# Altium schematic symbol library OOLITEV8_0_2-DEV-V1_1_17_Library.SchLib: 269 symbols (part 11 of 12)
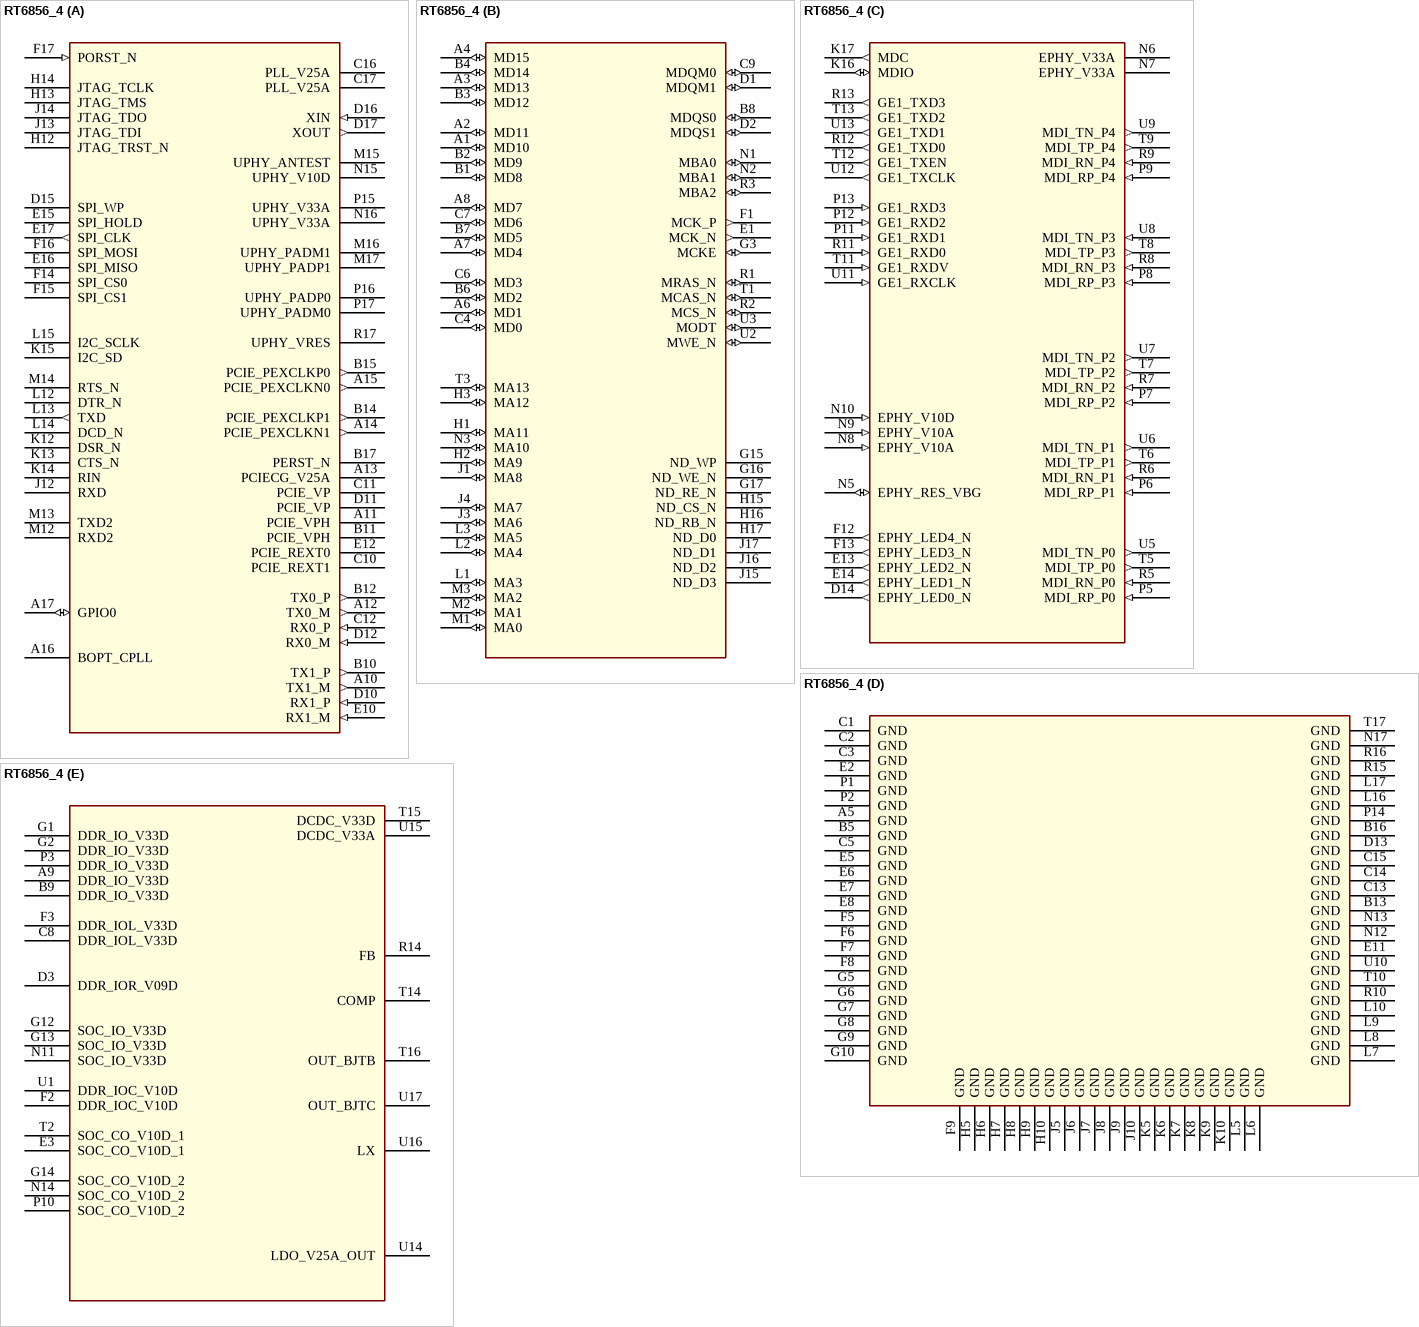
[diagram p148: symbol RT6856_4]

## RT6856_4
designator U?
footprint TFBGA289
part A pins: A10 TX1_M (out), A11 PCIE_VPH (power), A12 TX0_M (out), A13 PCIECG_V25A, A14 PCIE_PEXCLKN1 (out), A15 PCIE_PEXCLKN0 (out), A16 BOPT_CPLL, A17 GPIO0 (io), B10 TX1_P (out), B11 PCIE_VPH (power), B12 TX0_P (out), B14 PCIE_PEXCLKP1 (out), B15 PCIE_PEXCLKP0 (out), B17 PERST_N, C10 PCIE_REXT1, C11 PCIE_VP (power), C12 RX0_P (in), C16 PLL_V25A (power), C17 PLL_V25A (power), D10 RX1_P (in), D11 PCIE_VP (power), D12 RX0_M (in), D15 SPI_WP, D16 XIN (in), D17 XOUT (out), E10 RX1_M (in), E12 PCIE_REXT0, E15 SPI_HOLD, E16 SPI_MISO, E17 SPI_CLK (out), F14 SPI_CS0, F15 SPI_CS1, F16 SPI_MOSI, F17 PORST_N (in), H12 JTAG_TRST_N, H13 JTAG_TMS, H14 JTAG_TCLK, J12 RXD, J13 JTAG_TDI, J14 JTAG_TDO, K12 DSR_N, K13 CTS_N, K14 RIN, K15 I2C_SD, L12 DTR_N, L13 TXD (out), L14 DCD_N, L15 I2C_SCLK, M12 RXD2, M13 TXD2, M14 RTS_N, M15 UPHY_ANTEST, M16 UPHY_PADM1, M17 UPHY_PADP1, N15 UPHY_V10D (power), N16 UPHY_V33A (power), P15 UPHY_V33A (power), P16 UPHY_PADP0, P17 UPHY_PADM0, R17 UPHY_VRES
part B pins: A1 MD10 (io), A2 MD11 (io), A3 MD13 (io), A4 MD15 (io), A6 MD1 (io), A7 MD4 (io), A8 MD7 (io), B1 MD8 (io), B2 MD9 (io), B3 MD12 (io), B4 MD14 (io), B6 MD2 (io), B7 MD5 (io), B8 MDQS0 (io), C4 MD0 (io), C6 MD3 (io), C7 MD6 (io), C9 MDQM0 (io), D1 MDQM1 (io), D2 MDQS1 (io), E1 MCK_N (out), F1 MCK_P (out), G3 MCKE (io), G15 ND_WP, G16 ND_WE_N, G17 ND_RE_N, H1 MA11 (io), H2 MA9 (io), H3 MA12 (io), H15 ND_CS_N, H16 ND_RB_N, H17 ND_D0, J1 MA8 (io), J3 MA6 (io), J4 MA7 (io), J15 ND_D3, J16 ND_D2, J17 ND_D1, L1 MA3 (io), L2 MA4 (io), L3 MA5 (io), M1 MA0 (io), M2 MA1 (io), M3 MA2 (io), N1 MBA0 (io), N2 MBA1 (io), N3 MA10 (io), R1 MRAS_N (io), R2 MCS_N (io), R3 MBA2 (io), T1 MCAS_N (io), T3 MA13 (io), U2 MWE_N (io), U3 MODT (io)
part C pins: D14 EPHY_LED0_N (out), E13 EPHY_LED2_N (out), E14 EPHY_LED1_N (out), F12 EPHY_LED4_N (out), F13 EPHY_LED3_N (out), K16 MDIO (io), K17 MDC (out), N5 EPHY_RES_VBG (io), N6 EPHY_V33A (power), N7 EPHY_V33A (power), N8 EPHY_V10A (in), N9 EPHY_V10A (in), N10 EPHY_V10D (in), P5 MDI_RP_P0 (in), P6 MDI_RP_P1 (in), P7 MDI_RP_P2 (in), P8 MDI_RP_P3 (in), P9 MDI_RP_P4 (in), P11 GE1_RXD1 (in), P12 GE1_RXD2 (in), P13 GE1_RXD3 (in), R5 MDI_RN_P0 (in), R6 MDI_RN_P1 (in), R7 MDI_RN_P2 (in), R8 MDI_RN_P3 (in), R9 MDI_RN_P4 (in), R11 GE1_RXD0 (in), R12 GE1_TXD0 (out), R13 GE1_TXD3 (out), T5 MDI_TP_P0 (out), T6 MDI_TP_P1 (out), T7 MDI_TP_P2 (out), T8 MDI_TP_P3 (out), T9 MDI_TP_P4 (out), T11 GE1_RXDV (in), T12 GE1_TXEN (out), T13 GE1_TXD2 (out), U5 MDI_TN_P0 (out), U6 MDI_TN_P1 (out), U7 MDI_TN_P2 (out), U8 MDI_TN_P3 (in), U9 MDI_TN_P4 (out), U11 GE1_RXCLK (in), U12 GE1_TXCLK (out), U13 GE1_TXD1 (out)
part D pins: A5 GND (power), B5 GND (power), B13 GND (power), B16 GND (power), C1 GND (power), C2 GND (power), C3 GND (power), C5 GND (power), C13 GND (power), C14 GND (power), C15 GND (power), D13 GND (power), E2 GND (power), E5 GND (power), E6 GND (power), E7 GND (power), E8 GND (power), E11 GND (power), F5 GND (power), F6 GND (power), F7 GND (power), F8 GND (power), F9 GND (power), G5 GND (power), G6 GND (power), G7 GND (power), G8 GND (power), G9 GND (power), G10 GND (power), H5 GND (power), H6 GND (power), H7 GND (power), H8 GND (power), H9 GND (power), H10 GND (power), J5 GND (power), J6 GND (power), J7 GND (power), J8 GND (power), J9 GND (power), J10 GND (power), K5 GND (power), K6 GND (power), K7 GND (power), K8 GND (power), K9 GND (power), K10 GND (power), L5 GND (power), L6 GND (power), L7 GND (power), L8 GND (power), L9 GND (power), L10 GND (power), L16 GND (power), L17 GND (power), N12 GND (power), N13 GND (power), N17 GND (power), P1 GND (power), P2 GND (power), P14 GND (power), R10 GND (power), R15 GND (power), R16 GND (power), T10 GND (power), T17 GND (power), U10 GND (power)
part E pins: A9 DDR_IO_V33D (power), B9 DDR_IO_V33D (power), C8 DDR_IOL_V33D (power), D3 DDR_IOR_V09D (power), E3 SOC_CO_V10D_1 (power), F2 DDR_IOC_V10D (power), F3 DDR_IOL_V33D (power), G1 DDR_IO_V33D (power), G2 DDR_IO_V33D (power), G12 SOC_IO_V33D (power), G13 SOC_IO_V33D (power), G14 SOC_CO_V10D_2 (power), N11 SOC_IO_V33D (power), N14 SOC_CO_V10D_2 (power), P3 DDR_IO_V33D (power), P10 SOC_CO_V10D_2 (power), R14 FB, T2 SOC_CO_V10D_1 (power), T14 COMP, T15 DCDC_V33D (power), T16 OUT_BJTB, U1 DDR_IOC_V10D (power), U14 LDO_V25A_OUT, U15 DCDC_V33A (power), U16 LX, U17 OUT_BJTC

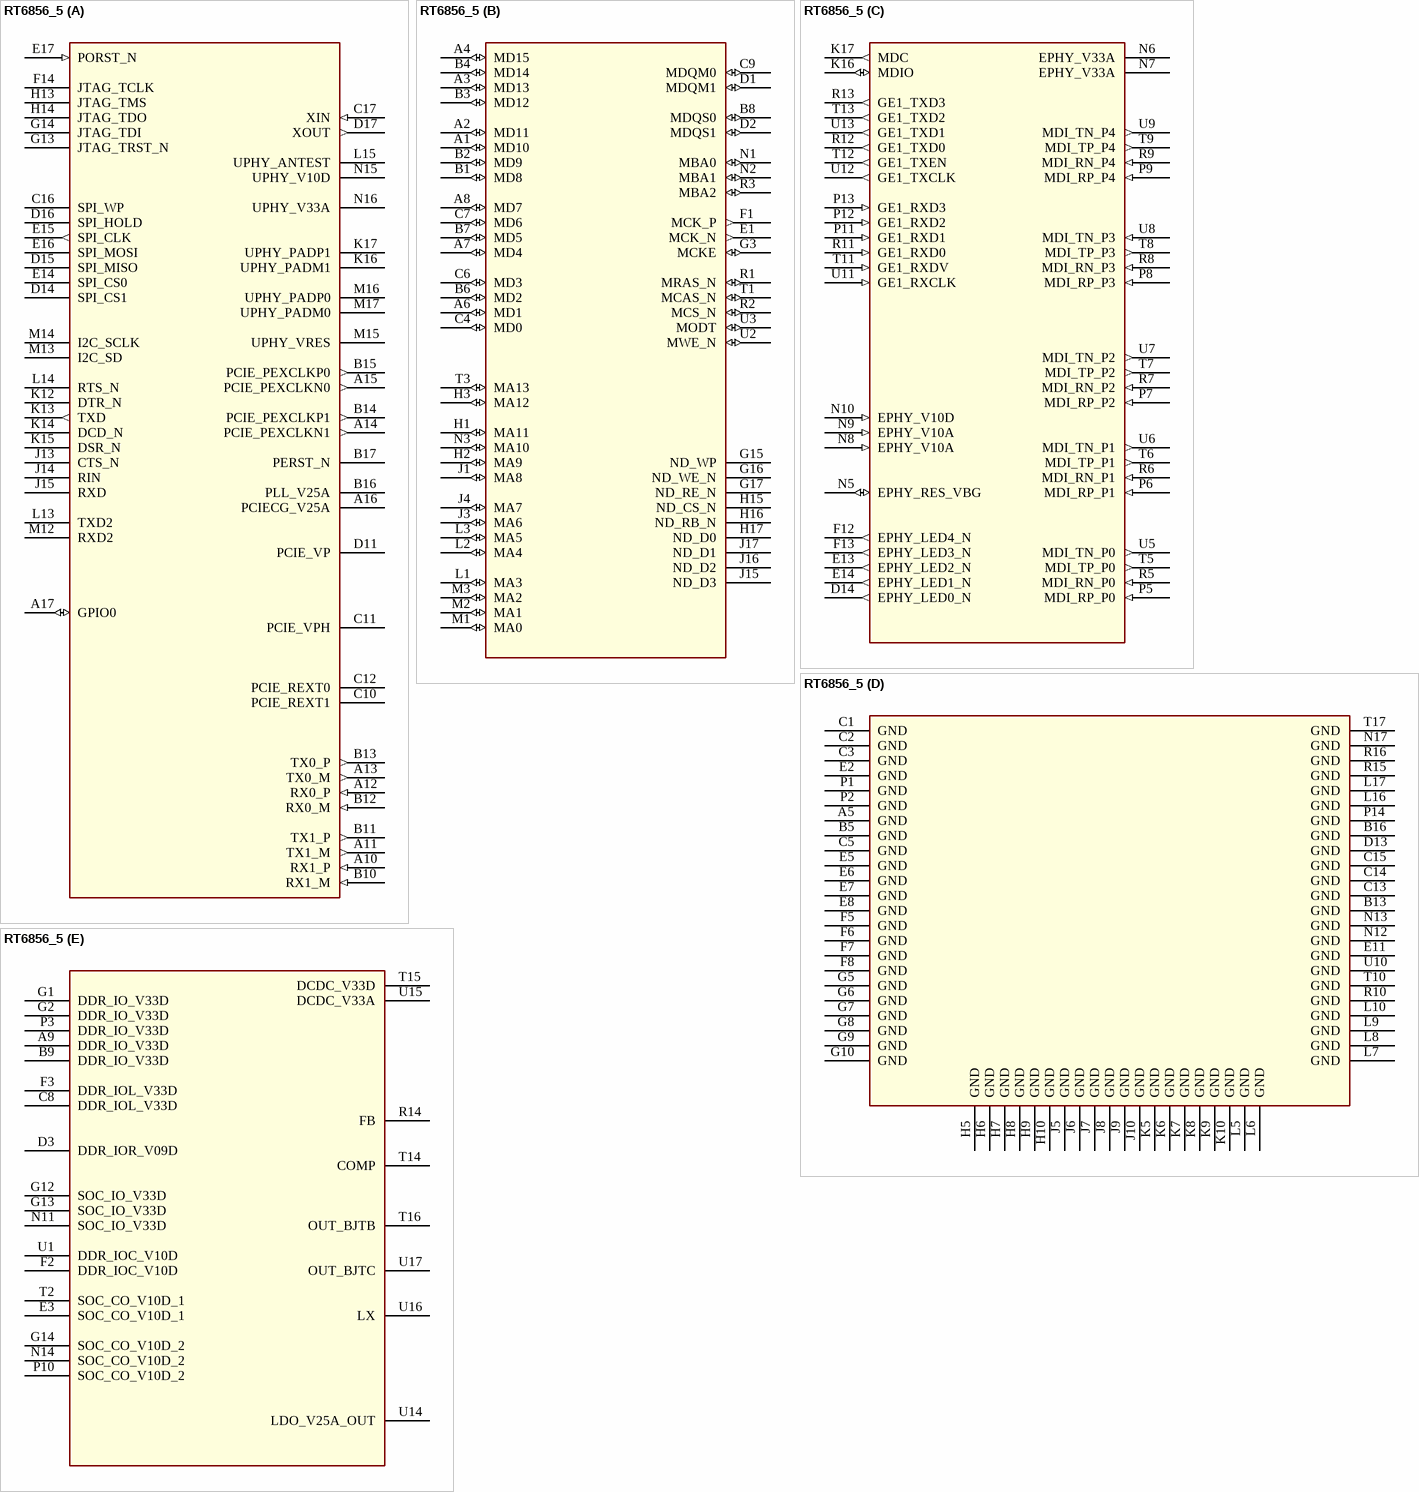
[diagram p126: symbol RT6856_5]

## RT6856_5
designator U?
footprint TFBGA289
part A pins: A10 RX1_P (in), A11 TX1_M (out), A12 RX0_P (in), A13 TX0_M (out), A14 PCIE_PEXCLKN1 (out), A15 PCIE_PEXCLKN0 (out), A16 PCIECG_V25A, A17 GPIO0 (io), B10 RX1_M (in), B11 TX1_P (out), B12 RX0_M (in), B13 TX0_P (out), B14 PCIE_PEXCLKP1 (out), B15 PCIE_PEXCLKP0 (out), B16 PLL_V25A (power), B17 PERST_N, C10 PCIE_REXT1, C11 PCIE_VPH (power), C12 PCIE_REXT0, C16 SPI_WP, C17 XIN (in), D11 PCIE_VP (power), D14 SPI_CS1, D15 SPI_MISO, D16 SPI_HOLD, D17 XOUT (out), E14 SPI_CS0, E15 SPI_CLK (out), E16 SPI_MOSI, E17 PORST_N (in), F14 JTAG_TCLK, G13 JTAG_TRST_N, G14 JTAG_TDI, H13 JTAG_TMS, H14 JTAG_TDO, J13 CTS_N, J14 RIN, J15 RXD, K12 DTR_N, K13 TXD (out), K14 DCD_N, K15 DSR_N, K16 UPHY_PADM1, K17 UPHY_PADP1, L13 TXD2, L14 RTS_N, L15 UPHY_ANTEST, M12 RXD2, M13 I2C_SD, M14 I2C_SCLK, M15 UPHY_VRES, M16 UPHY_PADP0, M17 UPHY_PADM0, N15 UPHY_V10D (power), N16 UPHY_V33A (power)
part B pins: A1 MD10 (io), A2 MD11 (io), A3 MD13 (io), A4 MD15 (io), A6 MD1 (io), A7 MD4 (io), A8 MD7 (io), B1 MD8 (io), B2 MD9 (io), B3 MD12 (io), B4 MD14 (io), B6 MD2 (io), B7 MD5 (io), B8 MDQS0 (io), C4 MD0 (io), C6 MD3 (io), C7 MD6 (io), C9 MDQM0 (io), D1 MDQM1 (io), D2 MDQS1 (io), E1 MCK_N (out), F1 MCK_P (out), G3 MCKE (io), G15 ND_WP, G16 ND_WE_N, G17 ND_RE_N, H1 MA11 (io), H2 MA9 (io), H3 MA12 (io), H15 ND_CS_N, H16 ND_RB_N, H17 ND_D0, J1 MA8 (io), J3 MA6 (io), J4 MA7 (io), J15 ND_D3, J16 ND_D2, J17 ND_D1, L1 MA3 (io), L2 MA4 (io), L3 MA5 (io), M1 MA0 (io), M2 MA1 (io), M3 MA2 (io), N1 MBA0 (io), N2 MBA1 (io), N3 MA10 (io), R1 MRAS_N (io), R2 MCS_N (io), R3 MBA2 (io), T1 MCAS_N (io), T3 MA13 (io), U2 MWE_N (io), U3 MODT (io)
part C pins: D14 EPHY_LED0_N (out), E13 EPHY_LED2_N (out), E14 EPHY_LED1_N (out), F12 EPHY_LED4_N (out), F13 EPHY_LED3_N (out), K16 MDIO (io), K17 MDC (out), N5 EPHY_RES_VBG (io), N6 EPHY_V33A (power), N7 EPHY_V33A (power), N8 EPHY_V10A (in), N9 EPHY_V10A (in), N10 EPHY_V10D (in), P5 MDI_RP_P0 (in), P6 MDI_RP_P1 (in), P7 MDI_RP_P2 (in), P8 MDI_RP_P3 (in), P9 MDI_RP_P4 (in), P11 GE1_RXD1 (in), P12 GE1_RXD2 (in), P13 GE1_RXD3 (in), R5 MDI_RN_P0 (in), R6 MDI_RN_P1 (in), R7 MDI_RN_P2 (in), R8 MDI_RN_P3 (in), R9 MDI_RN_P4 (in), R11 GE1_RXD0 (in), R12 GE1_TXD0 (out), R13 GE1_TXD3 (out), T5 MDI_TP_P0 (out), T6 MDI_TP_P1 (out), T7 MDI_TP_P2 (out), T8 MDI_TP_P3 (out), T9 MDI_TP_P4 (out), T11 GE1_RXDV (in), T12 GE1_TXEN (out), T13 GE1_TXD2 (out), U5 MDI_TN_P0 (out), U6 MDI_TN_P1 (out), U7 MDI_TN_P2 (out), U8 MDI_TN_P3 (in), U9 MDI_TN_P4 (out), U11 GE1_RXCLK (in), U12 GE1_TXCLK (out), U13 GE1_TXD1 (out)
part D pins: A5 GND (power), B5 GND (power), B13 GND (power), B16 GND (power), C1 GND (power), C2 GND (power), C3 GND (power), C5 GND (power), C13 GND (power), C14 GND (power), C15 GND (power), D13 GND (power), E2 GND (power), E5 GND (power), E6 GND (power), E7 GND (power), E8 GND (power), E11 GND (power), F5 GND (power), F6 GND (power), F7 GND (power), F8 GND (power), G5 GND (power), G6 GND (power), G7 GND (power), G8 GND (power), G9 GND (power), G10 GND (power), H5 GND (power), H6 GND (power), H7 GND (power), H8 GND (power), H9 GND (power), H10 GND (power), J5 GND (power), J6 GND (power), J7 GND (power), J8 GND (power), J9 GND (power), J10 GND (power), K5 GND (power), K6 GND (power), K7 GND (power), K8 GND (power), K9 GND (power), K10 GND (power), L5 GND (power), L6 GND (power), L7 GND (power), L8 GND (power), L9 GND (power), L10 GND (power), L16 GND (power), L17 GND (power), N12 GND (power), N13 GND (power), N17 GND (power), P1 GND (power), P2 GND (power), P14 GND (power), R10 GND (power), R15 GND (power), R16 GND (power), T10 GND (power), T17 GND (power), U10 GND (power)
part E pins: A9 DDR_IO_V33D (power), B9 DDR_IO_V33D (power), C8 DDR_IOL_V33D (power), D3 DDR_IOR_V09D (power), E3 SOC_CO_V10D_1 (power), F2 DDR_IOC_V10D (power), F3 DDR_IOL_V33D (power), G1 DDR_IO_V33D (power), G2 DDR_IO_V33D (power), G12 SOC_IO_V33D (power), G13 SOC_IO_V33D (power), G14 SOC_CO_V10D_2 (power), N11 SOC_IO_V33D (power), N14 SOC_CO_V10D_2 (power), P3 DDR_IO_V33D (power), P10 SOC_CO_V10D_2 (power), R14 FB, T2 SOC_CO_V10D_1 (power), T14 COMP, T15 DCDC_V33D (power), T16 OUT_BJTB, U1 DDR_IOC_V10D (power), U14 LDO_V25A_OUT, U15 DCDC_V33A (power), U16 LX, U17 OUT_BJTC

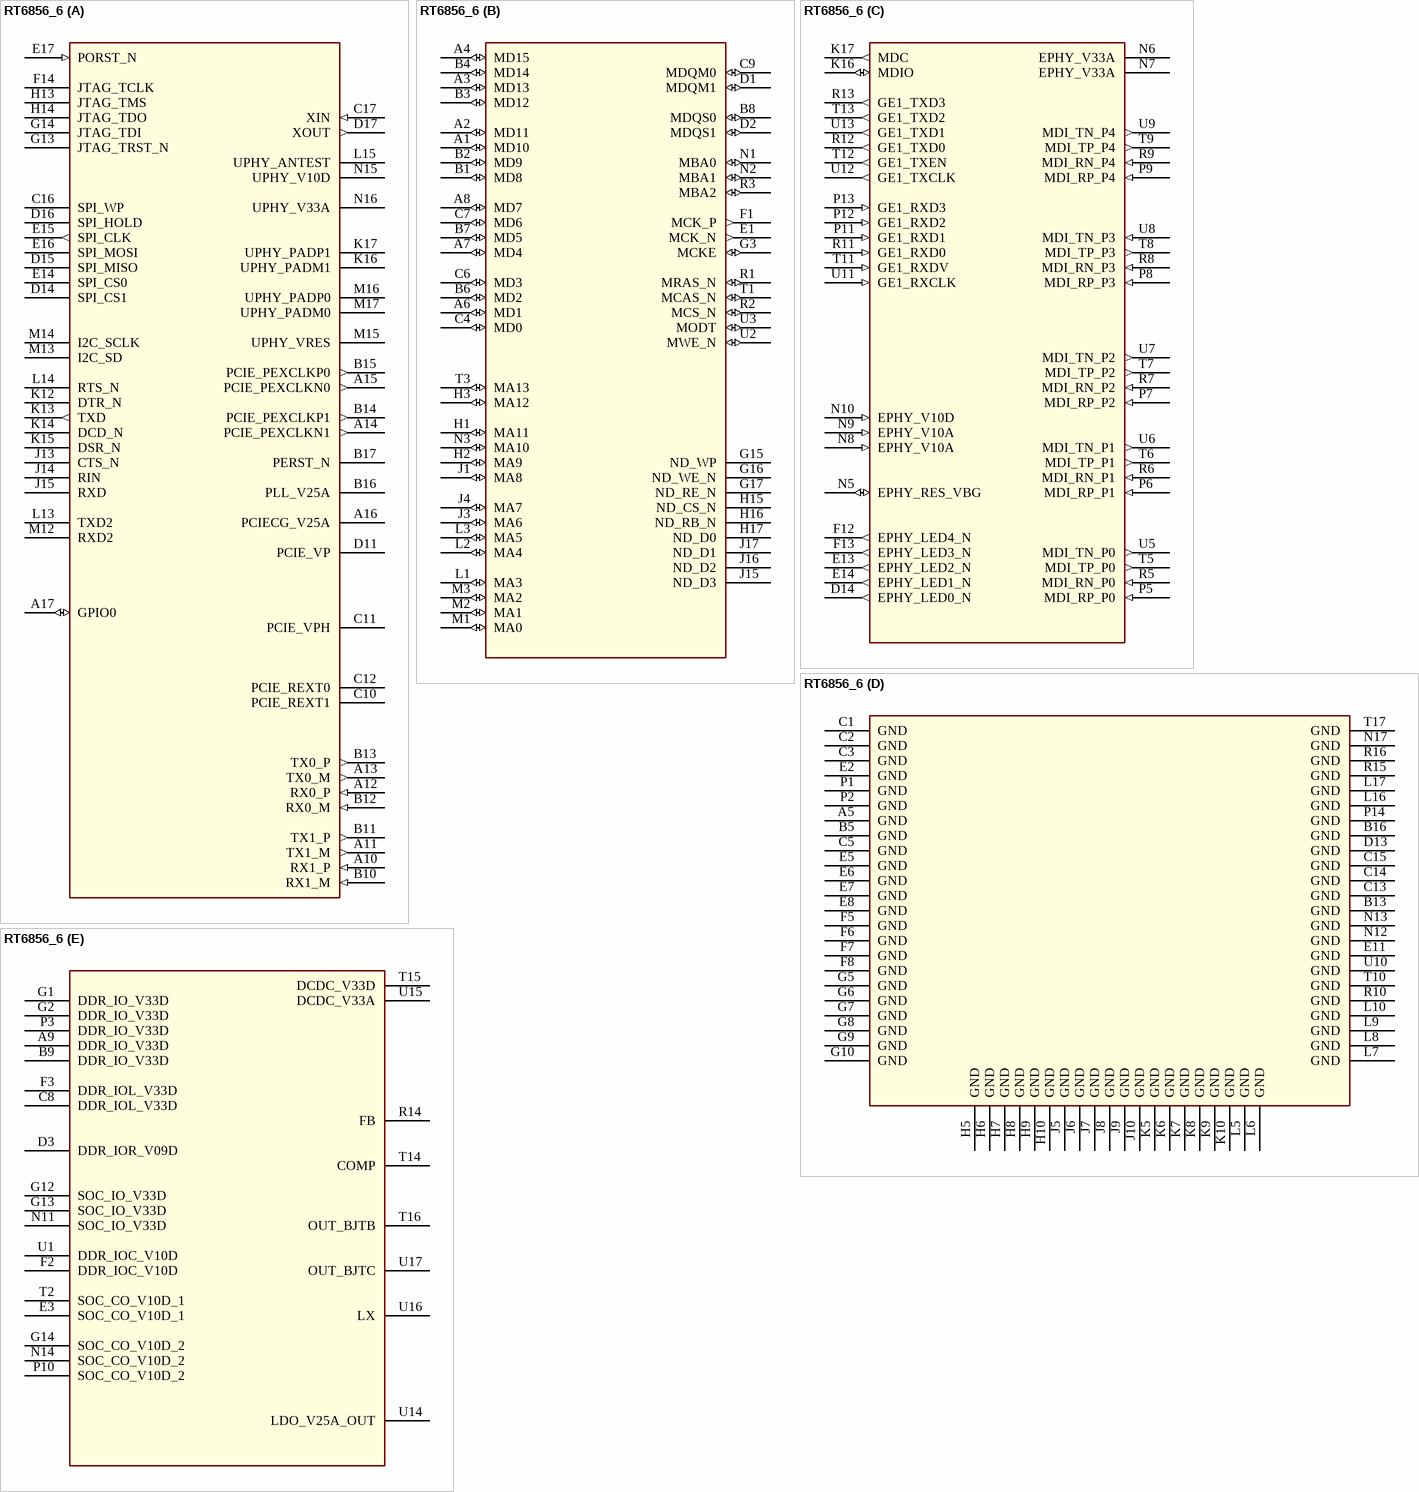
[diagram p127: symbol RT6856_6]

## RT6856_6
designator U?
footprint TFBGA289
part A pins: A10 RX1_P (in), A11 TX1_M (out), A12 RX0_P (in), A13 TX0_M (out), A14 PCIE_PEXCLKN1 (out), A15 PCIE_PEXCLKN0 (out), A16 PCIECG_V25A, A17 GPIO0 (io), B10 RX1_M (in), B11 TX1_P (out), B12 RX0_M (in), B13 TX0_P (out), B14 PCIE_PEXCLKP1 (out), B15 PCIE_PEXCLKP0 (out), B16 PLL_V25A (power), B17 PERST_N, C10 PCIE_REXT1, C11 PCIE_VPH (power), C12 PCIE_REXT0, C16 SPI_WP, C17 XIN (in), D11 PCIE_VP (power), D14 SPI_CS1, D15 SPI_MISO, D16 SPI_HOLD, D17 XOUT (out), E14 SPI_CS0, E15 SPI_CLK (out), E16 SPI_MOSI, E17 PORST_N (in), F14 JTAG_TCLK, G13 JTAG_TRST_N, G14 JTAG_TDI, H13 JTAG_TMS, H14 JTAG_TDO, J13 CTS_N, J14 RIN, J15 RXD, K12 DTR_N, K13 TXD (out), K14 DCD_N, K15 DSR_N, K16 UPHY_PADM1, K17 UPHY_PADP1, L13 TXD2, L14 RTS_N, L15 UPHY_ANTEST, M12 RXD2, M13 I2C_SD, M14 I2C_SCLK, M15 UPHY_VRES, M16 UPHY_PADP0, M17 UPHY_PADM0, N15 UPHY_V10D (power), N16 UPHY_V33A (power)
part B pins: A1 MD10 (io), A2 MD11 (io), A3 MD13 (io), A4 MD15 (io), A6 MD1 (io), A7 MD4 (io), A8 MD7 (io), B1 MD8 (io), B2 MD9 (io), B3 MD12 (io), B4 MD14 (io), B6 MD2 (io), B7 MD5 (io), B8 MDQS0 (io), C4 MD0 (io), C6 MD3 (io), C7 MD6 (io), C9 MDQM0 (io), D1 MDQM1 (io), D2 MDQS1 (io), E1 MCK_N (out), F1 MCK_P (out), G3 MCKE (io), G15 ND_WP, G16 ND_WE_N, G17 ND_RE_N, H1 MA11 (io), H2 MA9 (io), H3 MA12 (io), H15 ND_CS_N, H16 ND_RB_N, H17 ND_D0, J1 MA8 (io), J3 MA6 (io), J4 MA7 (io), J15 ND_D3, J16 ND_D2, J17 ND_D1, L1 MA3 (io), L2 MA4 (io), L3 MA5 (io), M1 MA0 (io), M2 MA1 (io), M3 MA2 (io), N1 MBA0 (io), N2 MBA1 (io), N3 MA10 (io), R1 MRAS_N (io), R2 MCS_N (io), R3 MBA2 (io), T1 MCAS_N (io), T3 MA13 (io), U2 MWE_N (io), U3 MODT (io)
part C pins: D14 EPHY_LED0_N (out), E13 EPHY_LED2_N (out), E14 EPHY_LED1_N (out), F12 EPHY_LED4_N (out), F13 EPHY_LED3_N (out), K16 MDIO (io), K17 MDC (out), N5 EPHY_RES_VBG (io), N6 EPHY_V33A (power), N7 EPHY_V33A (power), N8 EPHY_V10A (in), N9 EPHY_V10A (in), N10 EPHY_V10D (in), P5 MDI_RP_P0 (in), P6 MDI_RP_P1 (in), P7 MDI_RP_P2 (in), P8 MDI_RP_P3 (in), P9 MDI_RP_P4 (in), P11 GE1_RXD1 (in), P12 GE1_RXD2 (in), P13 GE1_RXD3 (in), R5 MDI_RN_P0 (in), R6 MDI_RN_P1 (in), R7 MDI_RN_P2 (in), R8 MDI_RN_P3 (in), R9 MDI_RN_P4 (in), R11 GE1_RXD0 (in), R12 GE1_TXD0 (out), R13 GE1_TXD3 (out), T5 MDI_TP_P0 (out), T6 MDI_TP_P1 (out), T7 MDI_TP_P2 (out), T8 MDI_TP_P3 (out), T9 MDI_TP_P4 (out), T11 GE1_RXDV (in), T12 GE1_TXEN (out), T13 GE1_TXD2 (out), U5 MDI_TN_P0 (out), U6 MDI_TN_P1 (out), U7 MDI_TN_P2 (out), U8 MDI_TN_P3 (in), U9 MDI_TN_P4 (out), U11 GE1_RXCLK (in), U12 GE1_TXCLK (out), U13 GE1_TXD1 (out)
part D pins: A5 GND (power), B5 GND (power), B13 GND (power), B16 GND (power), C1 GND (power), C2 GND (power), C3 GND (power), C5 GND (power), C13 GND (power), C14 GND (power), C15 GND (power), D13 GND (power), E2 GND (power), E5 GND (power), E6 GND (power), E7 GND (power), E8 GND (power), E11 GND (power), F5 GND (power), F6 GND (power), F7 GND (power), F8 GND (power), G5 GND (power), G6 GND (power), G7 GND (power), G8 GND (power), G9 GND (power), G10 GND (power), H5 GND (power), H6 GND (power), H7 GND (power), H8 GND (power), H9 GND (power), H10 GND (power), J5 GND (power), J6 GND (power), J7 GND (power), J8 GND (power), J9 GND (power), J10 GND (power), K5 GND (power), K6 GND (power), K7 GND (power), K8 GND (power), K9 GND (power), K10 GND (power), L5 GND (power), L6 GND (power), L7 GND (power), L8 GND (power), L9 GND (power), L10 GND (power), L16 GND (power), L17 GND (power), N12 GND (power), N13 GND (power), N17 GND (power), P1 GND (power), P2 GND (power), P14 GND (power), R10 GND (power), R15 GND (power), R16 GND (power), T10 GND (power), T17 GND (power), U10 GND (power)
part E pins: A9 DDR_IO_V33D (power), B9 DDR_IO_V33D (power), C8 DDR_IOL_V33D (power), D3 DDR_IOR_V09D (power), E3 SOC_CO_V10D_1 (power), F2 DDR_IOC_V10D (power), F3 DDR_IOL_V33D (power), G1 DDR_IO_V33D (power), G2 DDR_IO_V33D (power), G12 SOC_IO_V33D (power), G13 SOC_IO_V33D (power), G14 SOC_CO_V10D_2 (power), N11 SOC_IO_V33D (power), N14 SOC_CO_V10D_2 (power), P3 DDR_IO_V33D (power), P10 SOC_CO_V10D_2 (power), R14 FB, T2 SOC_CO_V10D_1 (power), T14 COMP, T15 DCDC_V33D (power), T16 OUT_BJTB, U1 DDR_IOC_V10D (power), U14 LDO_V25A_OUT, U15 DCDC_V33A (power), U16 LX, U17 OUT_BJTC

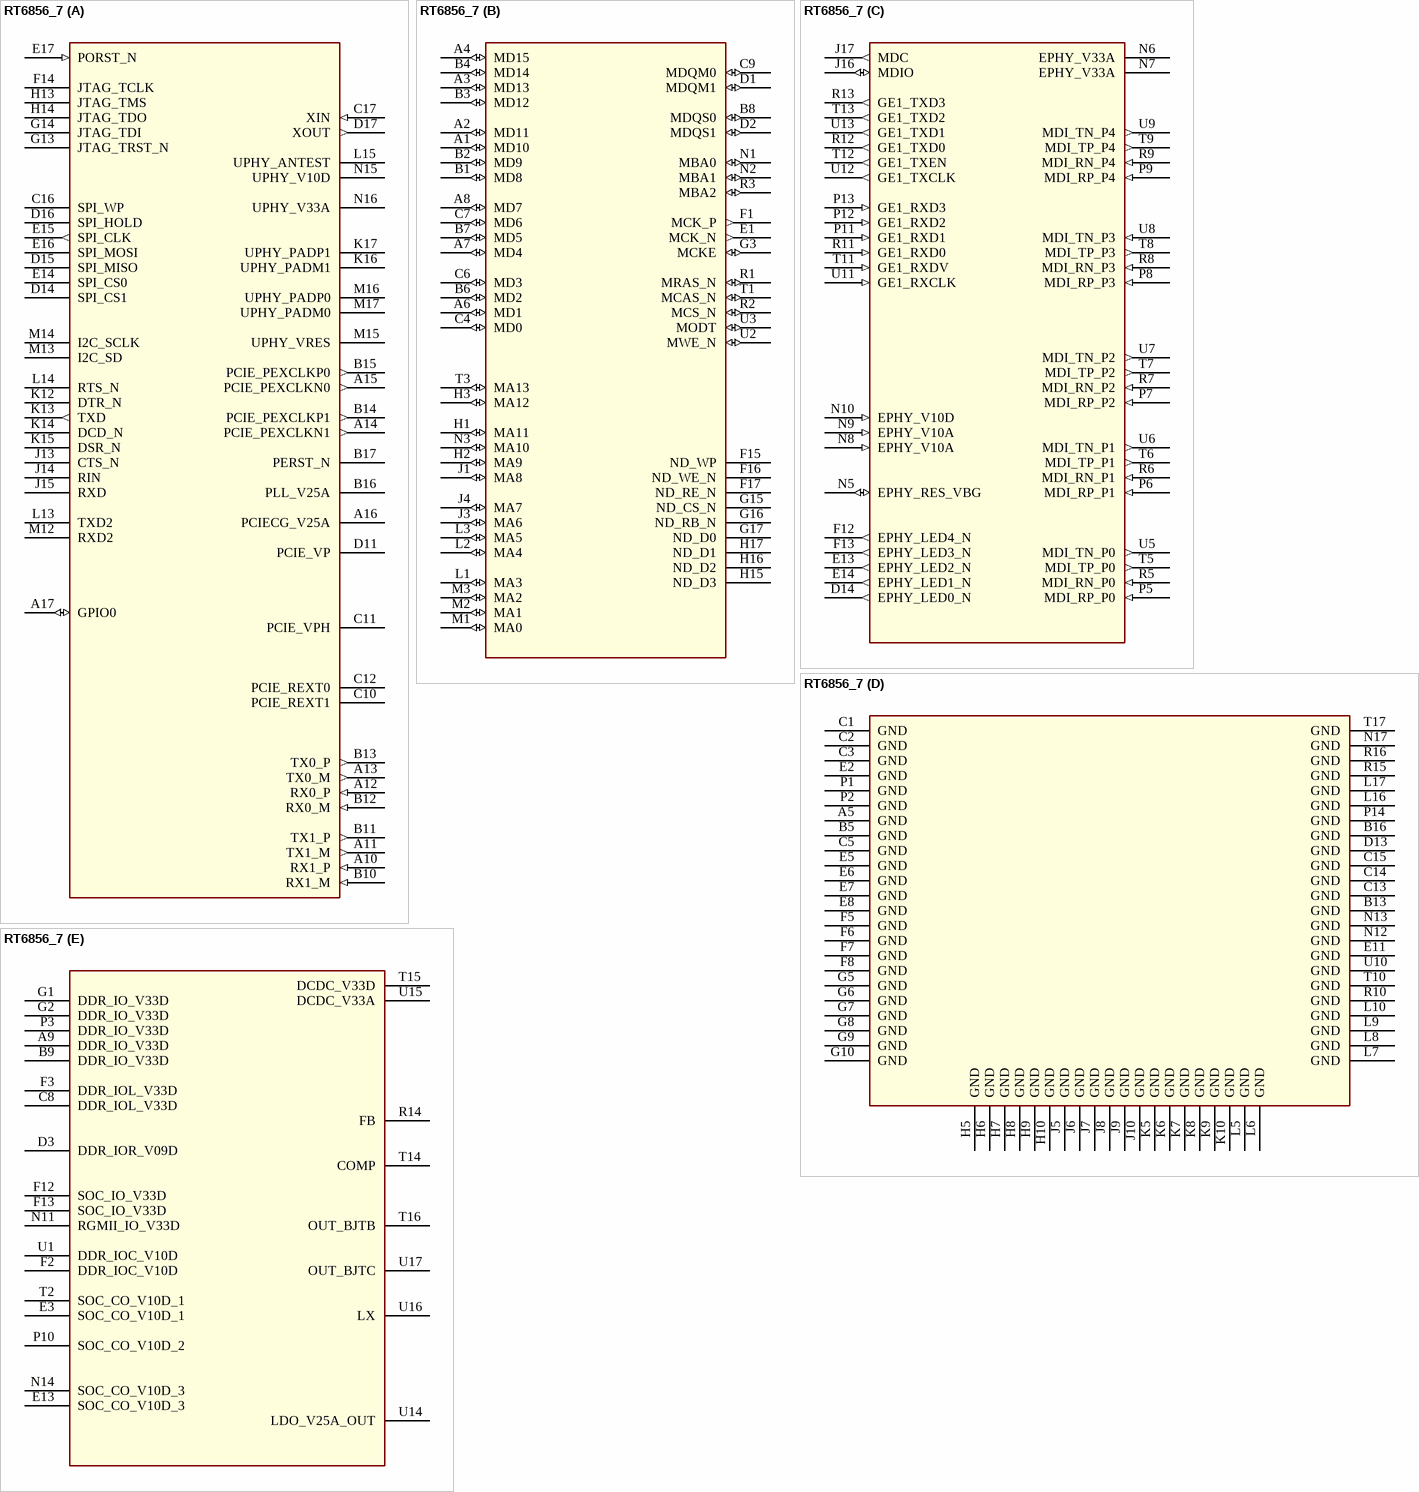
[diagram p128: symbol RT6856_7]

## RT6856_7
designator U?
footprint TFBGA289
part A pins: A10 RX1_P (in), A11 TX1_M (out), A12 RX0_P (in), A13 TX0_M (out), A14 PCIE_PEXCLKN1 (out), A15 PCIE_PEXCLKN0 (out), A16 PCIECG_V25A, A17 GPIO0 (io), B10 RX1_M (in), B11 TX1_P (out), B12 RX0_M (in), B13 TX0_P (out), B14 PCIE_PEXCLKP1 (out), B15 PCIE_PEXCLKP0 (out), B16 PLL_V25A (power), B17 PERST_N, C10 PCIE_REXT1, C11 PCIE_VPH (power), C12 PCIE_REXT0, C16 SPI_WP, C17 XIN (in), D11 PCIE_VP (power), D14 SPI_CS1, D15 SPI_MISO, D16 SPI_HOLD, D17 XOUT (out), E14 SPI_CS0, E15 SPI_CLK (out), E16 SPI_MOSI, E17 PORST_N (in), F14 JTAG_TCLK, G13 JTAG_TRST_N, G14 JTAG_TDI, H13 JTAG_TMS, H14 JTAG_TDO, J13 CTS_N, J14 RIN, J15 RXD, K12 DTR_N, K13 TXD (out), K14 DCD_N, K15 DSR_N, K16 UPHY_PADM1, K17 UPHY_PADP1, L13 TXD2, L14 RTS_N, L15 UPHY_ANTEST, M12 RXD2, M13 I2C_SD, M14 I2C_SCLK, M15 UPHY_VRES, M16 UPHY_PADP0, M17 UPHY_PADM0, N15 UPHY_V10D (power), N16 UPHY_V33A (power)
part B pins: A1 MD10 (io), A2 MD11 (io), A3 MD13 (io), A4 MD15 (io), A6 MD1 (io), A7 MD4 (io), A8 MD7 (io), B1 MD8 (io), B2 MD9 (io), B3 MD12 (io), B4 MD14 (io), B6 MD2 (io), B7 MD5 (io), B8 MDQS0 (io), C4 MD0 (io), C6 MD3 (io), C7 MD6 (io), C9 MDQM0 (io), D1 MDQM1 (io), D2 MDQS1 (io), E1 MCK_N (out), F1 MCK_P (out), F15 ND_WP, F16 ND_WE_N, F17 ND_RE_N, G3 MCKE (io), G15 ND_CS_N, G16 ND_RB_N, G17 ND_D0, H1 MA11 (io), H2 MA9 (io), H3 MA12 (io), H15 ND_D3, H16 ND_D2, H17 ND_D1, J1 MA8 (io), J3 MA6 (io), J4 MA7 (io), L1 MA3 (io), L2 MA4 (io), L3 MA5 (io), M1 MA0 (io), M2 MA1 (io), M3 MA2 (io), N1 MBA0 (io), N2 MBA1 (io), N3 MA10 (io), R1 MRAS_N (io), R2 MCS_N (io), R3 MBA2 (io), T1 MCAS_N (io), T3 MA13 (io), U2 MWE_N (io), U3 MODT (io)
part C pins: D14 EPHY_LED0_N (out), E13 EPHY_LED2_N (out), E14 EPHY_LED1_N (out), F12 EPHY_LED4_N (out), F13 EPHY_LED3_N (out), J16 MDIO (io), J17 MDC (out), N5 EPHY_RES_VBG (io), N6 EPHY_V33A (power), N7 EPHY_V33A (power), N8 EPHY_V10A (in), N9 EPHY_V10A (in), N10 EPHY_V10D (in), P5 MDI_RP_P0 (in), P6 MDI_RP_P1 (in), P7 MDI_RP_P2 (in), P8 MDI_RP_P3 (in), P9 MDI_RP_P4 (in), P11 GE1_RXD1 (in), P12 GE1_RXD2 (in), P13 GE1_RXD3 (in), R5 MDI_RN_P0 (in), R6 MDI_RN_P1 (in), R7 MDI_RN_P2 (in), R8 MDI_RN_P3 (in), R9 MDI_RN_P4 (in), R11 GE1_RXD0 (in), R12 GE1_TXD0 (out), R13 GE1_TXD3 (out), T5 MDI_TP_P0 (out), T6 MDI_TP_P1 (out), T7 MDI_TP_P2 (out), T8 MDI_TP_P3 (out), T9 MDI_TP_P4 (out), T11 GE1_RXDV (in), T12 GE1_TXEN (out), T13 GE1_TXD2 (out), U5 MDI_TN_P0 (out), U6 MDI_TN_P1 (out), U7 MDI_TN_P2 (out), U8 MDI_TN_P3 (in), U9 MDI_TN_P4 (out), U11 GE1_RXCLK (in), U12 GE1_TXCLK (out), U13 GE1_TXD1 (out)
part D pins: A5 GND (power), B5 GND (power), B13 GND (power), B16 GND (power), C1 GND (power), C2 GND (power), C3 GND (power), C5 GND (power), C13 GND (power), C14 GND (power), C15 GND (power), D13 GND (power), E2 GND (power), E5 GND (power), E6 GND (power), E7 GND (power), E8 GND (power), E11 GND (power), F5 GND (power), F6 GND (power), F7 GND (power), F8 GND (power), G5 GND (power), G6 GND (power), G7 GND (power), G8 GND (power), G9 GND (power), G10 GND (power), H5 GND (power), H6 GND (power), H7 GND (power), H8 GND (power), H9 GND (power), H10 GND (power), J5 GND (power), J6 GND (power), J7 GND (power), J8 GND (power), J9 GND (power), J10 GND (power), K5 GND (power), K6 GND (power), K7 GND (power), K8 GND (power), K9 GND (power), K10 GND (power), L5 GND (power), L6 GND (power), L7 GND (power), L8 GND (power), L9 GND (power), L10 GND (power), L16 GND (power), L17 GND (power), N12 GND (power), N13 GND (power), N17 GND (power), P1 GND (power), P2 GND (power), P14 GND (power), R10 GND (power), R15 GND (power), R16 GND (power), T10 GND (power), T17 GND (power), U10 GND (power)
part E pins: A9 DDR_IO_V33D (power), B9 DDR_IO_V33D (power), C8 DDR_IOL_V33D (power), D3 DDR_IOR_V09D (power), E3 SOC_CO_V10D_1 (power), E13 SOC_CO_V10D_3 (power), F2 DDR_IOC_V10D (power), F3 DDR_IOL_V33D (power), F12 SOC_IO_V33D (power), F13 SOC_IO_V33D (power), G1 DDR_IO_V33D (power), G2 DDR_IO_V33D (power), N11 RGMII_IO_V33D (power), N14 SOC_CO_V10D_3 (power), P3 DDR_IO_V33D (power), P10 SOC_CO_V10D_2 (power), R14 FB, T2 SOC_CO_V10D_1 (power), T14 COMP, T15 DCDC_V33D (power), T16 OUT_BJTB, U1 DDR_IOC_V10D (power), U14 LDO_V25A_OUT, U15 DCDC_V33A (power), U16 LX, U17 OUT_BJTC

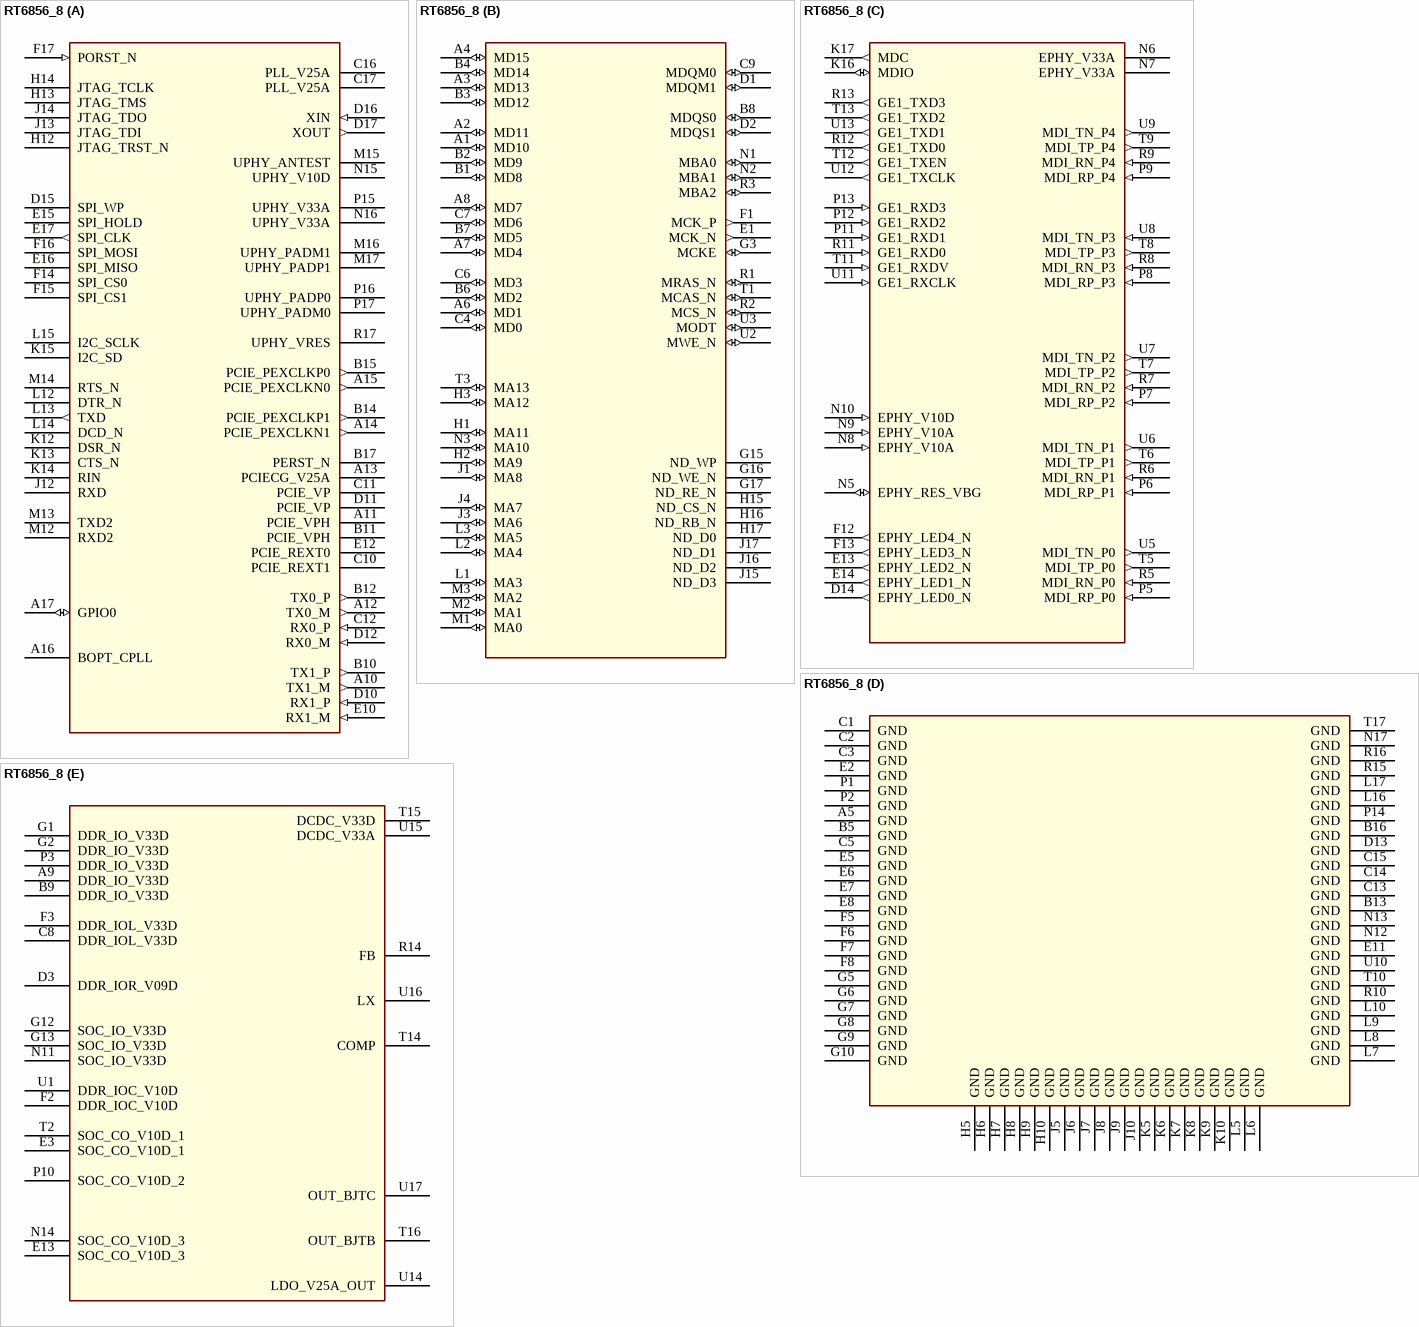
[diagram p129: symbol RT6856_8]

## RT6856_8
designator U?
footprint TFBGA289
part A pins: A10 TX1_M (out), A11 PCIE_VPH (power), A12 TX0_M (out), A13 PCIECG_V25A, A14 PCIE_PEXCLKN1 (out), A15 PCIE_PEXCLKN0 (out), A16 BOPT_CPLL, A17 GPIO0 (io), B10 TX1_P (out), B11 PCIE_VPH (power), B12 TX0_P (out), B14 PCIE_PEXCLKP1 (out), B15 PCIE_PEXCLKP0 (out), B17 PERST_N, C10 PCIE_REXT1, C11 PCIE_VP (power), C12 RX0_P (in), C16 PLL_V25A (power), C17 PLL_V25A (power), D10 RX1_P (in), D11 PCIE_VP (power), D12 RX0_M (in), D15 SPI_WP, D16 XIN (in), D17 XOUT (out), E10 RX1_M (in), E12 PCIE_REXT0, E15 SPI_HOLD, E16 SPI_MISO, E17 SPI_CLK (out), F14 SPI_CS0, F15 SPI_CS1, F16 SPI_MOSI, F17 PORST_N (in), H12 JTAG_TRST_N, H13 JTAG_TMS, H14 JTAG_TCLK, J12 RXD, J13 JTAG_TDI, J14 JTAG_TDO, K12 DSR_N, K13 CTS_N, K14 RIN, K15 I2C_SD, L12 DTR_N, L13 TXD (out), L14 DCD_N, L15 I2C_SCLK, M12 RXD2, M13 TXD2, M14 RTS_N, M15 UPHY_ANTEST, M16 UPHY_PADM1, M17 UPHY_PADP1, N15 UPHY_V10D (power), N16 UPHY_V33A (power), P15 UPHY_V33A (power), P16 UPHY_PADP0, P17 UPHY_PADM0, R17 UPHY_VRES
part B pins: A1 MD10 (io), A2 MD11 (io), A3 MD13 (io), A4 MD15 (io), A6 MD1 (io), A7 MD4 (io), A8 MD7 (io), B1 MD8 (io), B2 MD9 (io), B3 MD12 (io), B4 MD14 (io), B6 MD2 (io), B7 MD5 (io), B8 MDQS0 (io), C4 MD0 (io), C6 MD3 (io), C7 MD6 (io), C9 MDQM0 (io), D1 MDQM1 (io), D2 MDQS1 (io), E1 MCK_N (out), F1 MCK_P (out), G3 MCKE (io), G15 ND_WP, G16 ND_WE_N, G17 ND_RE_N, H1 MA11 (io), H2 MA9 (io), H3 MA12 (io), H15 ND_CS_N, H16 ND_RB_N, H17 ND_D0, J1 MA8 (io), J3 MA6 (io), J4 MA7 (io), J15 ND_D3, J16 ND_D2, J17 ND_D1, L1 MA3 (io), L2 MA4 (io), L3 MA5 (io), M1 MA0 (io), M2 MA1 (io), M3 MA2 (io), N1 MBA0 (io), N2 MBA1 (io), N3 MA10 (io), R1 MRAS_N (io), R2 MCS_N (io), R3 MBA2 (io), T1 MCAS_N (io), T3 MA13 (io), U2 MWE_N (io), U3 MODT (io)
part C pins: D14 EPHY_LED0_N (out), E13 EPHY_LED2_N (out), E14 EPHY_LED1_N (out), F12 EPHY_LED4_N (out), F13 EPHY_LED3_N (out), K16 MDIO (io), K17 MDC (out), N5 EPHY_RES_VBG (io), N6 EPHY_V33A (power), N7 EPHY_V33A (power), N8 EPHY_V10A (in), N9 EPHY_V10A (in), N10 EPHY_V10D (in), P5 MDI_RP_P0 (in), P6 MDI_RP_P1 (in), P7 MDI_RP_P2 (in), P8 MDI_RP_P3 (in), P9 MDI_RP_P4 (in), P11 GE1_RXD1 (in), P12 GE1_RXD2 (in), P13 GE1_RXD3 (in), R5 MDI_RN_P0 (in), R6 MDI_RN_P1 (in), R7 MDI_RN_P2 (in), R8 MDI_RN_P3 (in), R9 MDI_RN_P4 (in), R11 GE1_RXD0 (in), R12 GE1_TXD0 (out), R13 GE1_TXD3 (out), T5 MDI_TP_P0 (out), T6 MDI_TP_P1 (out), T7 MDI_TP_P2 (out), T8 MDI_TP_P3 (out), T9 MDI_TP_P4 (out), T11 GE1_RXDV (in), T12 GE1_TXEN (out), T13 GE1_TXD2 (out), U5 MDI_TN_P0 (out), U6 MDI_TN_P1 (out), U7 MDI_TN_P2 (out), U8 MDI_TN_P3 (in), U9 MDI_TN_P4 (out), U11 GE1_RXCLK (in), U12 GE1_TXCLK (out), U13 GE1_TXD1 (out)
part D pins: A5 GND (power), B5 GND (power), B13 GND (power), B16 GND (power), C1 GND (power), C2 GND (power), C3 GND (power), C5 GND (power), C13 GND (power), C14 GND (power), C15 GND (power), D13 GND (power), E2 GND (power), E5 GND (power), E6 GND (power), E7 GND (power), E8 GND (power), E11 GND (power), F5 GND (power), F6 GND (power), F7 GND (power), F8 GND (power), G5 GND (power), G6 GND (power), G7 GND (power), G8 GND (power), G9 GND (power), G10 GND (power), H5 GND (power), H6 GND (power), H7 GND (power), H8 GND (power), H9 GND (power), H10 GND (power), J5 GND (power), J6 GND (power), J7 GND (power), J8 GND (power), J9 GND (power), J10 GND (power), K5 GND (power), K6 GND (power), K7 GND (power), K8 GND (power), K9 GND (power), K10 GND (power), L5 GND (power), L6 GND (power), L7 GND (power), L8 GND (power), L9 GND (power), L10 GND (power), L16 GND (power), L17 GND (power), N12 GND (power), N13 GND (power), N17 GND (power), P1 GND (power), P2 GND (power), P14 GND (power), R10 GND (power), R15 GND (power), R16 GND (power), T10 GND (power), T17 GND (power), U10 GND (power)
part E pins: A9 DDR_IO_V33D (power), B9 DDR_IO_V33D (power), C8 DDR_IOL_V33D (power), D3 DDR_IOR_V09D (power), E3 SOC_CO_V10D_1 (power), E13 SOC_CO_V10D_3 (power), F2 DDR_IOC_V10D (power), F3 DDR_IOL_V33D (power), G1 DDR_IO_V33D (power), G2 DDR_IO_V33D (power), G12 SOC_IO_V33D (power), G13 SOC_IO_V33D (power), N11 SOC_IO_V33D (power), N14 SOC_CO_V10D_3 (power), P3 DDR_IO_V33D (power), P10 SOC_CO_V10D_2 (power), R14 FB, T2 SOC_CO_V10D_1 (power), T14 COMP, T15 DCDC_V33D (power), T16 OUT_BJTB, U1 DDR_IOC_V10D (power), U14 LDO_V25A_OUT (power), U15 DCDC_V33A (power), U16 LX, U17 OUT_BJTC

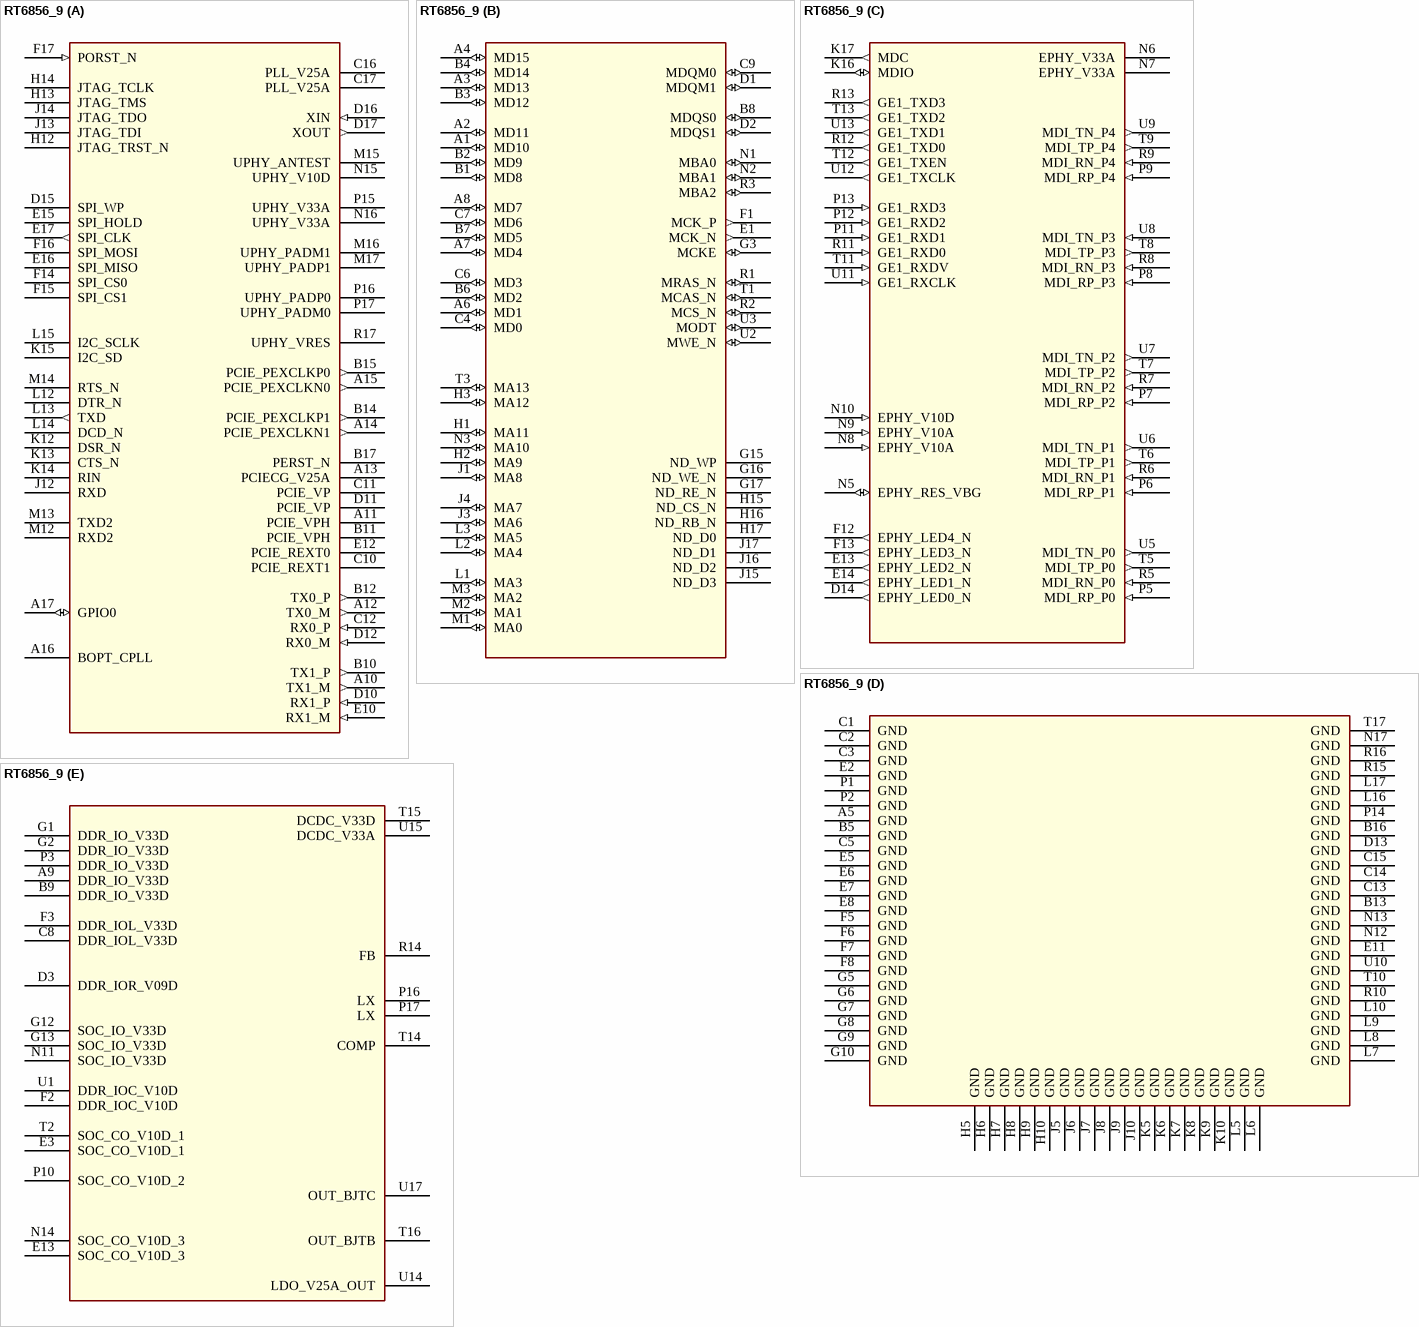
[diagram p130: symbol RT6856_9]

## RT6856_9
designator U?
footprint TFBGA289
part A pins: A10 TX1_M (out), A11 PCIE_VPH (power), A12 TX0_M (out), A13 PCIECG_V25A, A14 PCIE_PEXCLKN1 (out), A15 PCIE_PEXCLKN0 (out), A16 BOPT_CPLL, A17 GPIO0 (io), B10 TX1_P (out), B11 PCIE_VPH (power), B12 TX0_P (out), B14 PCIE_PEXCLKP1 (out), B15 PCIE_PEXCLKP0 (out), B17 PERST_N, C10 PCIE_REXT1, C11 PCIE_VP (power), C12 RX0_P (in), C16 PLL_V25A (power), C17 PLL_V25A (power), D10 RX1_P (in), D11 PCIE_VP (power), D12 RX0_M (in), D15 SPI_WP, D16 XIN (in), D17 XOUT (out), E10 RX1_M (in), E12 PCIE_REXT0, E15 SPI_HOLD, E16 SPI_MISO, E17 SPI_CLK (out), F14 SPI_CS0, F15 SPI_CS1, F16 SPI_MOSI, F17 PORST_N (in), H12 JTAG_TRST_N, H13 JTAG_TMS, H14 JTAG_TCLK, J12 RXD, J13 JTAG_TDI, J14 JTAG_TDO, K12 DSR_N, K13 CTS_N, K14 RIN, K15 I2C_SD, L12 DTR_N, L13 TXD (out), L14 DCD_N, L15 I2C_SCLK, M12 RXD2, M13 TXD2, M14 RTS_N, M15 UPHY_ANTEST, M16 UPHY_PADM1, M17 UPHY_PADP1, N15 UPHY_V10D (power), N16 UPHY_V33A (power), P15 UPHY_V33A (power), P16 UPHY_PADP0, P17 UPHY_PADM0, R17 UPHY_VRES
part B pins: A1 MD10 (io), A2 MD11 (io), A3 MD13 (io), A4 MD15 (io), A6 MD1 (io), A7 MD4 (io), A8 MD7 (io), B1 MD8 (io), B2 MD9 (io), B3 MD12 (io), B4 MD14 (io), B6 MD2 (io), B7 MD5 (io), B8 MDQS0 (io), C4 MD0 (io), C6 MD3 (io), C7 MD6 (io), C9 MDQM0 (io), D1 MDQM1 (io), D2 MDQS1 (io), E1 MCK_N (out), F1 MCK_P (out), G3 MCKE (io), G15 ND_WP, G16 ND_WE_N, G17 ND_RE_N, H1 MA11 (io), H2 MA9 (io), H3 MA12 (io), H15 ND_CS_N, H16 ND_RB_N, H17 ND_D0, J1 MA8 (io), J3 MA6 (io), J4 MA7 (io), J15 ND_D3, J16 ND_D2, J17 ND_D1, L1 MA3 (io), L2 MA4 (io), L3 MA5 (io), M1 MA0 (io), M2 MA1 (io), M3 MA2 (io), N1 MBA0 (io), N2 MBA1 (io), N3 MA10 (io), R1 MRAS_N (io), R2 MCS_N (io), R3 MBA2 (io), T1 MCAS_N (io), T3 MA13 (io), U2 MWE_N (io), U3 MODT (io)
part C pins: D14 EPHY_LED0_N (out), E13 EPHY_LED2_N (out), E14 EPHY_LED1_N (out), F12 EPHY_LED4_N (out), F13 EPHY_LED3_N (out), K16 MDIO (io), K17 MDC (out), N5 EPHY_RES_VBG (io), N6 EPHY_V33A (power), N7 EPHY_V33A (power), N8 EPHY_V10A (in), N9 EPHY_V10A (in), N10 EPHY_V10D (in), P5 MDI_RP_P0 (in), P6 MDI_RP_P1 (in), P7 MDI_RP_P2 (in), P8 MDI_RP_P3 (in), P9 MDI_RP_P4 (in), P11 GE1_RXD1 (in), P12 GE1_RXD2 (in), P13 GE1_RXD3 (in), R5 MDI_RN_P0 (in), R6 MDI_RN_P1 (in), R7 MDI_RN_P2 (in), R8 MDI_RN_P3 (in), R9 MDI_RN_P4 (in), R11 GE1_RXD0 (in), R12 GE1_TXD0 (out), R13 GE1_TXD3 (out), T5 MDI_TP_P0 (out), T6 MDI_TP_P1 (out), T7 MDI_TP_P2 (out), T8 MDI_TP_P3 (out), T9 MDI_TP_P4 (out), T11 GE1_RXDV (in), T12 GE1_TXEN (out), T13 GE1_TXD2 (out), U5 MDI_TN_P0 (out), U6 MDI_TN_P1 (out), U7 MDI_TN_P2 (out), U8 MDI_TN_P3 (in), U9 MDI_TN_P4 (out), U11 GE1_RXCLK (in), U12 GE1_TXCLK (out), U13 GE1_TXD1 (out)
part D pins: A5 GND (power), B5 GND (power), B13 GND (power), B16 GND (power), C1 GND (power), C2 GND (power), C3 GND (power), C5 GND (power), C13 GND (power), C14 GND (power), C15 GND (power), D13 GND (power), E2 GND (power), E5 GND (power), E6 GND (power), E7 GND (power), E8 GND (power), E11 GND (power), F5 GND (power), F6 GND (power), F7 GND (power), F8 GND (power), G5 GND (power), G6 GND (power), G7 GND (power), G8 GND (power), G9 GND (power), G10 GND (power), H5 GND (power), H6 GND (power), H7 GND (power), H8 GND (power), H9 GND (power), H10 GND (power), J5 GND (power), J6 GND (power), J7 GND (power), J8 GND (power), J9 GND (power), J10 GND (power), K5 GND (power), K6 GND (power), K7 GND (power), K8 GND (power), K9 GND (power), K10 GND (power), L5 GND (power), L6 GND (power), L7 GND (power), L8 GND (power), L9 GND (power), L10 GND (power), L16 GND (power), L17 GND (power), N12 GND (power), N13 GND (power), N17 GND (power), P1 GND (power), P2 GND (power), P14 GND (power), R10 GND (power), R15 GND (power), R16 GND (power), T10 GND (power), T17 GND (power), U10 GND (power)
part E pins: A9 DDR_IO_V33D (power), B9 DDR_IO_V33D (power), C8 DDR_IOL_V33D (power), D3 DDR_IOR_V09D (power), E3 SOC_CO_V10D_1 (power), E13 SOC_CO_V10D_3 (power), F2 DDR_IOC_V10D (power), F3 DDR_IOL_V33D (power), G1 DDR_IO_V33D (power), G2 DDR_IO_V33D (power), G12 SOC_IO_V33D (power), G13 SOC_IO_V33D (power), N11 SOC_IO_V33D (power), N14 SOC_CO_V10D_3 (power), P3 DDR_IO_V33D (power), P10 SOC_CO_V10D_2 (power), P16 LX, P17 LX (power), R14 FB, T2 SOC_CO_V10D_1 (power), T14 COMP, T15 DCDC_V33D (power), T16 OUT_BJTB, U1 DDR_IOC_V10D (power), U14 LDO_V25A_OUT (power), U15 DCDC_V33A (power), U17 OUT_BJTC

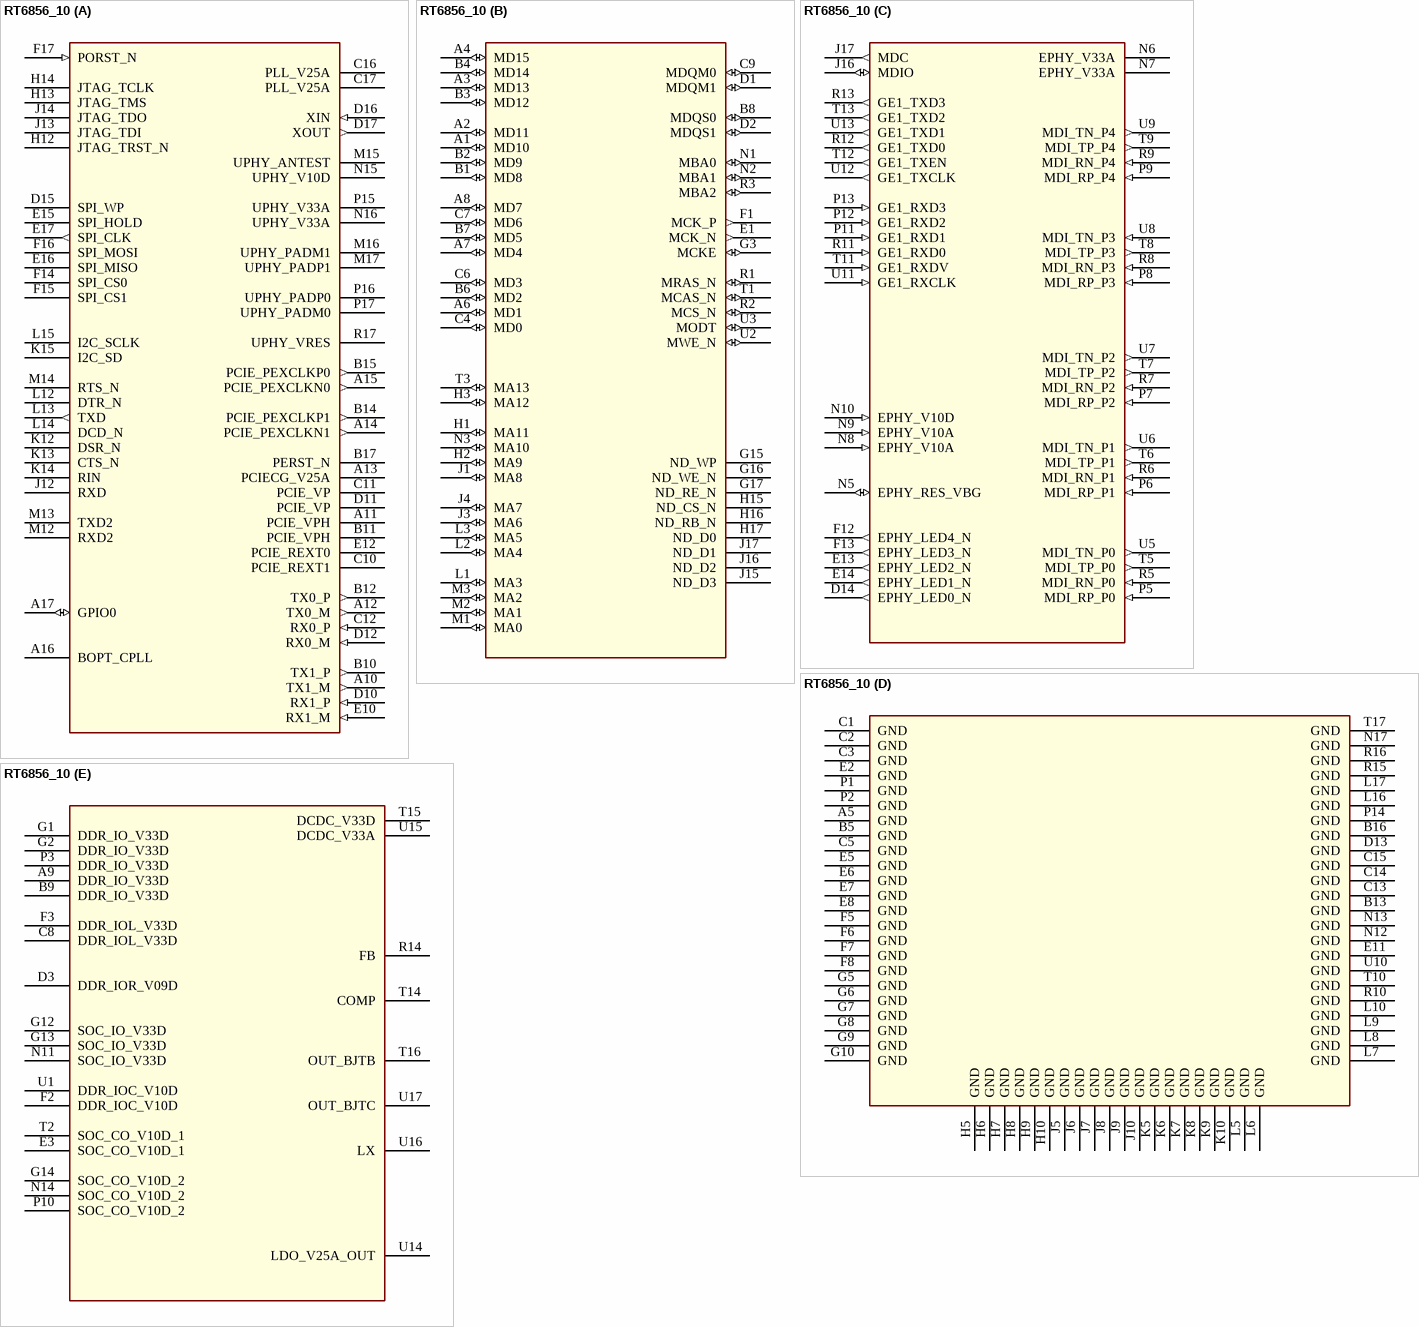
[diagram p131: symbol RT6856_10]

## RT6856_10
designator U?
footprint TFBGA289
part A pins: A10 TX1_M (out), A11 PCIE_VPH (power), A12 TX0_M (out), A13 PCIECG_V25A, A14 PCIE_PEXCLKN1 (out), A15 PCIE_PEXCLKN0 (out), A16 BOPT_CPLL, A17 GPIO0 (io), B10 TX1_P (out), B11 PCIE_VPH (power), B12 TX0_P (out), B14 PCIE_PEXCLKP1 (out), B15 PCIE_PEXCLKP0 (out), B17 PERST_N, C10 PCIE_REXT1, C11 PCIE_VP (power), C12 RX0_P (in), C16 PLL_V25A (power), C17 PLL_V25A (power), D10 RX1_P (in), D11 PCIE_VP (power), D12 RX0_M (in), D15 SPI_WP, D16 XIN (in), D17 XOUT (out), E10 RX1_M (in), E12 PCIE_REXT0, E15 SPI_HOLD, E16 SPI_MISO, E17 SPI_CLK (out), F14 SPI_CS0, F15 SPI_CS1, F16 SPI_MOSI, F17 PORST_N (in), H12 JTAG_TRST_N, H13 JTAG_TMS, H14 JTAG_TCLK, J12 RXD, J13 JTAG_TDI, J14 JTAG_TDO, K12 DSR_N, K13 CTS_N, K14 RIN, K15 I2C_SD, L12 DTR_N, L13 TXD (out), L14 DCD_N, L15 I2C_SCLK, M12 RXD2, M13 TXD2, M14 RTS_N, M15 UPHY_ANTEST, M16 UPHY_PADM1, M17 UPHY_PADP1, N15 UPHY_V10D (power), N16 UPHY_V33A (power), P15 UPHY_V33A (power), P16 UPHY_PADP0, P17 UPHY_PADM0, R17 UPHY_VRES
part B pins: A1 MD10 (io), A2 MD11 (io), A3 MD13 (io), A4 MD15 (io), A6 MD1 (io), A7 MD4 (io), A8 MD7 (io), B1 MD8 (io), B2 MD9 (io), B3 MD12 (io), B4 MD14 (io), B6 MD2 (io), B7 MD5 (io), B8 MDQS0 (io), C4 MD0 (io), C6 MD3 (io), C7 MD6 (io), C9 MDQM0 (io), D1 MDQM1 (io), D2 MDQS1 (io), E1 MCK_N (out), F1 MCK_P (out), G3 MCKE (io), G15 ND_WP, G16 ND_WE_N, G17 ND_RE_N, H1 MA11 (io), H2 MA9 (io), H3 MA12 (io), H15 ND_CS_N, H16 ND_RB_N, H17 ND_D0, J1 MA8 (io), J3 MA6 (io), J4 MA7 (io), J15 ND_D3, J16 ND_D2, J17 ND_D1, L1 MA3 (io), L2 MA4 (io), L3 MA5 (io), M1 MA0 (io), M2 MA1 (io), M3 MA2 (io), N1 MBA0 (io), N2 MBA1 (io), N3 MA10 (io), R1 MRAS_N (io), R2 MCS_N (io), R3 MBA2 (io), T1 MCAS_N (io), T3 MA13 (io), U2 MWE_N (io), U3 MODT (io)
part C pins: D14 EPHY_LED0_N (out), E13 EPHY_LED2_N (out), E14 EPHY_LED1_N (out), F12 EPHY_LED4_N (out), F13 EPHY_LED3_N (out), J16 MDIO (io), J17 MDC (out), N5 EPHY_RES_VBG (io), N6 EPHY_V33A (power), N7 EPHY_V33A (power), N8 EPHY_V10A (in), N9 EPHY_V10A (in), N10 EPHY_V10D (in), P5 MDI_RP_P0 (in), P6 MDI_RP_P1 (in), P7 MDI_RP_P2 (in), P8 MDI_RP_P3 (in), P9 MDI_RP_P4 (in), P11 GE1_RXD1 (in), P12 GE1_RXD2 (in), P13 GE1_RXD3 (in), R5 MDI_RN_P0 (in), R6 MDI_RN_P1 (in), R7 MDI_RN_P2 (in), R8 MDI_RN_P3 (in), R9 MDI_RN_P4 (in), R11 GE1_RXD0 (in), R12 GE1_TXD0 (out), R13 GE1_TXD3 (out), T5 MDI_TP_P0 (out), T6 MDI_TP_P1 (out), T7 MDI_TP_P2 (out), T8 MDI_TP_P3 (out), T9 MDI_TP_P4 (out), T11 GE1_RXDV (in), T12 GE1_TXEN (out), T13 GE1_TXD2 (out), U5 MDI_TN_P0 (out), U6 MDI_TN_P1 (out), U7 MDI_TN_P2 (out), U8 MDI_TN_P3 (in), U9 MDI_TN_P4 (out), U11 GE1_RXCLK (in), U12 GE1_TXCLK (out), U13 GE1_TXD1 (out)
part D pins: A5 GND (power), B5 GND (power), B13 GND (power), B16 GND (power), C1 GND (power), C2 GND (power), C3 GND (power), C5 GND (power), C13 GND (power), C14 GND (power), C15 GND (power), D13 GND (power), E2 GND (power), E5 GND (power), E6 GND (power), E7 GND (power), E8 GND (power), E11 GND (power), F5 GND (power), F6 GND (power), F7 GND (power), F8 GND (power), G5 GND (power), G6 GND (power), G7 GND (power), G8 GND (power), G9 GND (power), G10 GND (power), H5 GND (power), H6 GND (power), H7 GND (power), H8 GND (power), H9 GND (power), H10 GND (power), J5 GND (power), J6 GND (power), J7 GND (power), J8 GND (power), J9 GND (power), J10 GND (power), K5 GND (power), K6 GND (power), K7 GND (power), K8 GND (power), K9 GND (power), K10 GND (power), L5 GND (power), L6 GND (power), L7 GND (power), L8 GND (power), L9 GND (power), L10 GND (power), L16 GND (power), L17 GND (power), N12 GND (power), N13 GND (power), N17 GND (power), P1 GND (power), P2 GND (power), P14 GND (power), R10 GND (power), R15 GND (power), R16 GND (power), T10 GND (power), T17 GND (power), U10 GND (power)
part E pins: A9 DDR_IO_V33D (power), B9 DDR_IO_V33D (power), C8 DDR_IOL_V33D (power), D3 DDR_IOR_V09D (power), E3 SOC_CO_V10D_1 (power), F2 DDR_IOC_V10D (power), F3 DDR_IOL_V33D (power), G1 DDR_IO_V33D (power), G2 DDR_IO_V33D (power), G12 SOC_IO_V33D (power), G13 SOC_IO_V33D (power), G14 SOC_CO_V10D_2 (power), N11 SOC_IO_V33D (power), N14 SOC_CO_V10D_2 (power), P3 DDR_IO_V33D (power), P10 SOC_CO_V10D_2 (power), R14 FB, T2 SOC_CO_V10D_1 (power), T14 COMP, T15 DCDC_V33D (power), T16 OUT_BJTB, U1 DDR_IOC_V10D (power), U14 LDO_V25A_OUT, U15 DCDC_V33A (power), U16 LX, U17 OUT_BJTC

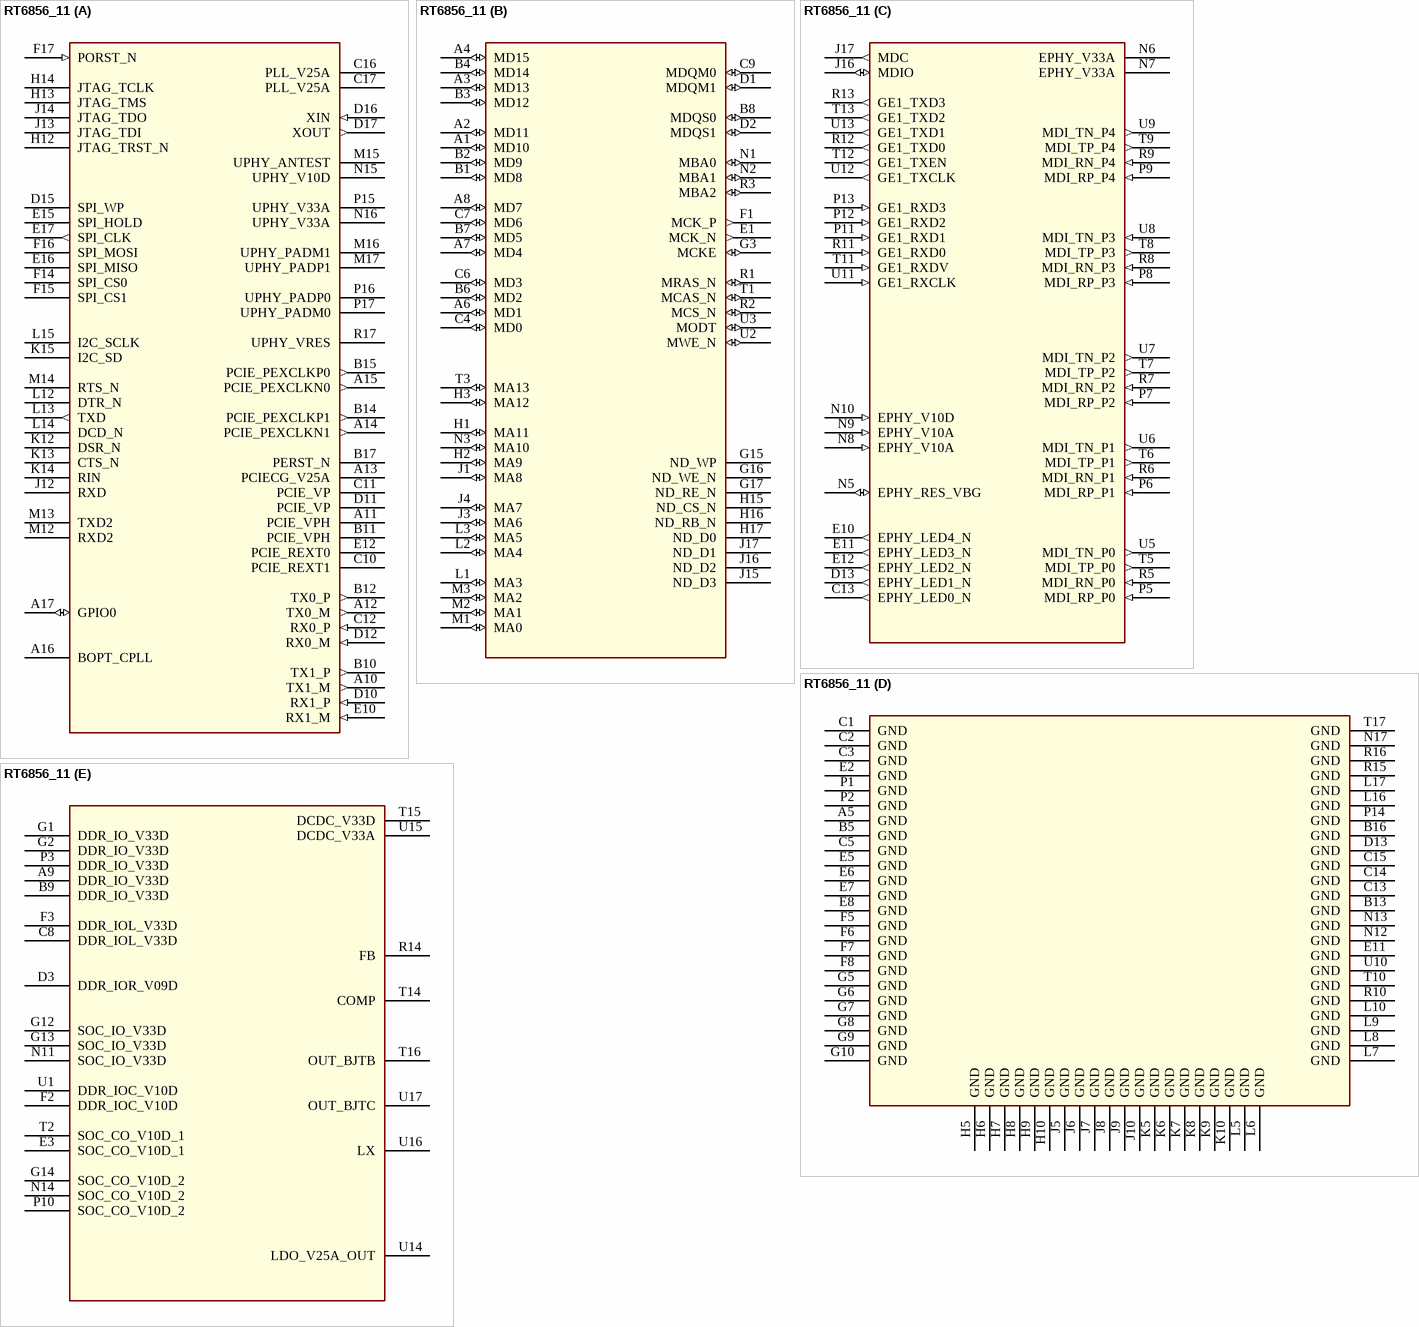
[diagram p132: symbol RT6856_11]

## RT6856_11
designator U?
footprint TFBGA289
part A pins: A10 TX1_M (out), A11 PCIE_VPH (power), A12 TX0_M (out), A13 PCIECG_V25A, A14 PCIE_PEXCLKN1 (out), A15 PCIE_PEXCLKN0 (out), A16 BOPT_CPLL, A17 GPIO0 (io), B10 TX1_P (out), B11 PCIE_VPH (power), B12 TX0_P (out), B14 PCIE_PEXCLKP1 (out), B15 PCIE_PEXCLKP0 (out), B17 PERST_N, C10 PCIE_REXT1, C11 PCIE_VP (power), C12 RX0_P (in), C16 PLL_V25A (power), C17 PLL_V25A (power), D10 RX1_P (in), D11 PCIE_VP (power), D12 RX0_M (in), D15 SPI_WP, D16 XIN (in), D17 XOUT (out), E10 RX1_M (in), E12 PCIE_REXT0, E15 SPI_HOLD, E16 SPI_MISO, E17 SPI_CLK (out), F14 SPI_CS0, F15 SPI_CS1, F16 SPI_MOSI, F17 PORST_N (in), H12 JTAG_TRST_N, H13 JTAG_TMS, H14 JTAG_TCLK, J12 RXD, J13 JTAG_TDI, J14 JTAG_TDO, K12 DSR_N, K13 CTS_N, K14 RIN, K15 I2C_SD, L12 DTR_N, L13 TXD (out), L14 DCD_N, L15 I2C_SCLK, M12 RXD2, M13 TXD2, M14 RTS_N, M15 UPHY_ANTEST, M16 UPHY_PADM1, M17 UPHY_PADP1, N15 UPHY_V10D (power), N16 UPHY_V33A (power), P15 UPHY_V33A (power), P16 UPHY_PADP0, P17 UPHY_PADM0, R17 UPHY_VRES
part B pins: A1 MD10 (io), A2 MD11 (io), A3 MD13 (io), A4 MD15 (io), A6 MD1 (io), A7 MD4 (io), A8 MD7 (io), B1 MD8 (io), B2 MD9 (io), B3 MD12 (io), B4 MD14 (io), B6 MD2 (io), B7 MD5 (io), B8 MDQS0 (io), C4 MD0 (io), C6 MD3 (io), C7 MD6 (io), C9 MDQM0 (io), D1 MDQM1 (io), D2 MDQS1 (io), E1 MCK_N (out), F1 MCK_P (out), G3 MCKE (io), G15 ND_WP, G16 ND_WE_N, G17 ND_RE_N, H1 MA11 (io), H2 MA9 (io), H3 MA12 (io), H15 ND_CS_N, H16 ND_RB_N, H17 ND_D0, J1 MA8 (io), J3 MA6 (io), J4 MA7 (io), J15 ND_D3, J16 ND_D2, J17 ND_D1, L1 MA3 (io), L2 MA4 (io), L3 MA5 (io), M1 MA0 (io), M2 MA1 (io), M3 MA2 (io), N1 MBA0 (io), N2 MBA1 (io), N3 MA10 (io), R1 MRAS_N (io), R2 MCS_N (io), R3 MBA2 (io), T1 MCAS_N (io), T3 MA13 (io), U2 MWE_N (io), U3 MODT (io)
part C pins: C13 EPHY_LED0_N (out), D13 EPHY_LED1_N (out), E10 EPHY_LED4_N (out), E11 EPHY_LED3_N (out), E12 EPHY_LED2_N (out), J16 MDIO (io), J17 MDC (out), N5 EPHY_RES_VBG (io), N6 EPHY_V33A (power), N7 EPHY_V33A (power), N8 EPHY_V10A (in), N9 EPHY_V10A (in), N10 EPHY_V10D (in), P5 MDI_RP_P0 (in), P6 MDI_RP_P1 (in), P7 MDI_RP_P2 (in), P8 MDI_RP_P3 (in), P9 MDI_RP_P4 (in), P11 GE1_RXD1 (in), P12 GE1_RXD2 (in), P13 GE1_RXD3 (in), R5 MDI_RN_P0 (in), R6 MDI_RN_P1 (in), R7 MDI_RN_P2 (in), R8 MDI_RN_P3 (in), R9 MDI_RN_P4 (in), R11 GE1_RXD0 (in), R12 GE1_TXD0 (out), R13 GE1_TXD3 (out), T5 MDI_TP_P0 (out), T6 MDI_TP_P1 (out), T7 MDI_TP_P2 (out), T8 MDI_TP_P3 (out), T9 MDI_TP_P4 (out), T11 GE1_RXDV (in), T12 GE1_TXEN (out), T13 GE1_TXD2 (out), U5 MDI_TN_P0 (out), U6 MDI_TN_P1 (out), U7 MDI_TN_P2 (out), U8 MDI_TN_P3 (in), U9 MDI_TN_P4 (out), U11 GE1_RXCLK (in), U12 GE1_TXCLK (out), U13 GE1_TXD1 (out)
part D pins: A5 GND (power), B5 GND (power), B13 GND (power), B16 GND (power), C1 GND (power), C2 GND (power), C3 GND (power), C5 GND (power), C13 GND (power), C14 GND (power), C15 GND (power), D13 GND (power), E2 GND (power), E5 GND (power), E6 GND (power), E7 GND (power), E8 GND (power), E11 GND (power), F5 GND (power), F6 GND (power), F7 GND (power), F8 GND (power), G5 GND (power), G6 GND (power), G7 GND (power), G8 GND (power), G9 GND (power), G10 GND (power), H5 GND (power), H6 GND (power), H7 GND (power), H8 GND (power), H9 GND (power), H10 GND (power), J5 GND (power), J6 GND (power), J7 GND (power), J8 GND (power), J9 GND (power), J10 GND (power), K5 GND (power), K6 GND (power), K7 GND (power), K8 GND (power), K9 GND (power), K10 GND (power), L5 GND (power), L6 GND (power), L7 GND (power), L8 GND (power), L9 GND (power), L10 GND (power), L16 GND (power), L17 GND (power), N12 GND (power), N13 GND (power), N17 GND (power), P1 GND (power), P2 GND (power), P14 GND (power), R10 GND (power), R15 GND (power), R16 GND (power), T10 GND (power), T17 GND (power), U10 GND (power)
part E pins: A9 DDR_IO_V33D (power), B9 DDR_IO_V33D (power), C8 DDR_IOL_V33D (power), D3 DDR_IOR_V09D (power), E3 SOC_CO_V10D_1 (power), F2 DDR_IOC_V10D (power), F3 DDR_IOL_V33D (power), G1 DDR_IO_V33D (power), G2 DDR_IO_V33D (power), G12 SOC_IO_V33D (power), G13 SOC_IO_V33D (power), G14 SOC_CO_V10D_2 (power), N11 SOC_IO_V33D (power), N14 SOC_CO_V10D_2 (power), P3 DDR_IO_V33D (power), P10 SOC_CO_V10D_2 (power), R14 FB, T2 SOC_CO_V10D_1 (power), T14 COMP, T15 DCDC_V33D (power), T16 OUT_BJTB, U1 DDR_IOC_V10D (power), U14 LDO_V25A_OUT, U15 DCDC_V33A (power), U16 LX, U17 OUT_BJTC

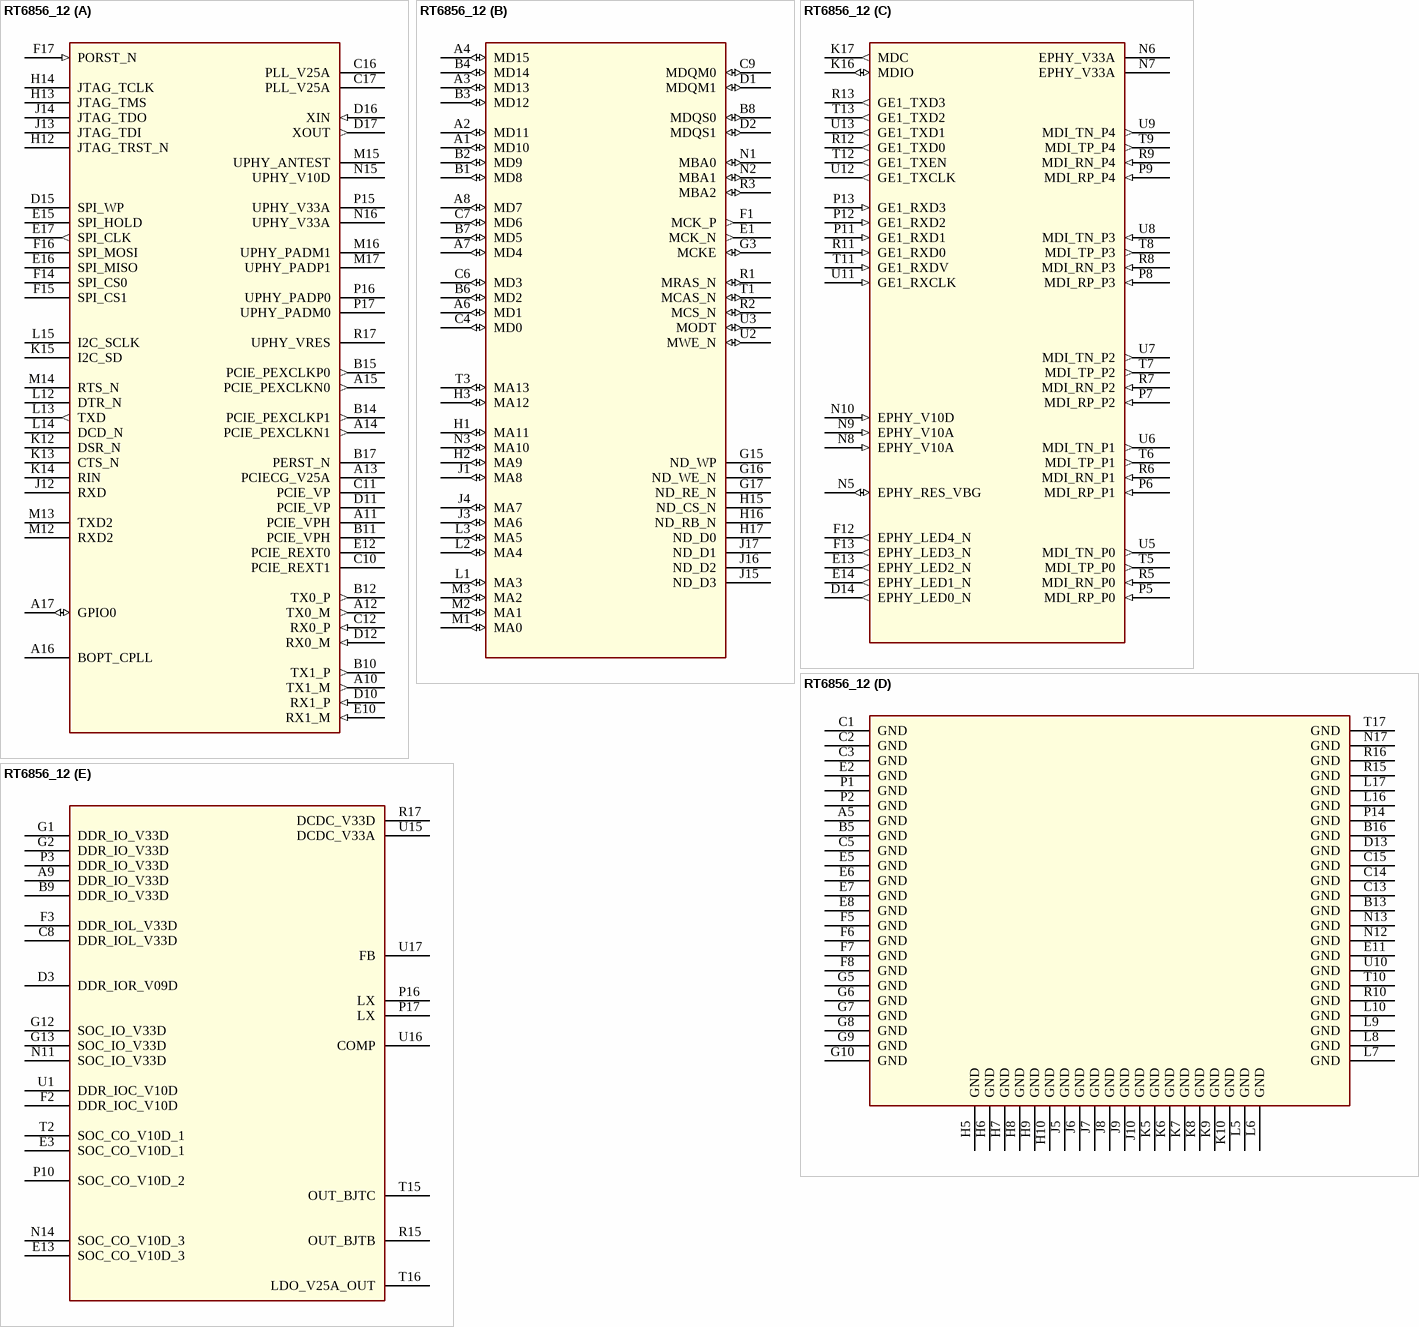
[diagram p133: symbol RT6856_12]

## RT6856_12
designator U?
footprint TFBGA289
part A pins: A10 TX1_M (out), A11 PCIE_VPH (power), A12 TX0_M (out), A13 PCIECG_V25A, A14 PCIE_PEXCLKN1 (out), A15 PCIE_PEXCLKN0 (out), A16 BOPT_CPLL, A17 GPIO0 (io), B10 TX1_P (out), B11 PCIE_VPH (power), B12 TX0_P (out), B14 PCIE_PEXCLKP1 (out), B15 PCIE_PEXCLKP0 (out), B17 PERST_N, C10 PCIE_REXT1, C11 PCIE_VP (power), C12 RX0_P (in), C16 PLL_V25A (power), C17 PLL_V25A (power), D10 RX1_P (in), D11 PCIE_VP (power), D12 RX0_M (in), D15 SPI_WP, D16 XIN (in), D17 XOUT (out), E10 RX1_M (in), E12 PCIE_REXT0, E15 SPI_HOLD, E16 SPI_MISO, E17 SPI_CLK (out), F14 SPI_CS0, F15 SPI_CS1, F16 SPI_MOSI, F17 PORST_N (in), H12 JTAG_TRST_N, H13 JTAG_TMS, H14 JTAG_TCLK, J12 RXD, J13 JTAG_TDI, J14 JTAG_TDO, K12 DSR_N, K13 CTS_N, K14 RIN, K15 I2C_SD, L12 DTR_N, L13 TXD (out), L14 DCD_N, L15 I2C_SCLK, M12 RXD2, M13 TXD2, M14 RTS_N, M15 UPHY_ANTEST, M16 UPHY_PADM1, M17 UPHY_PADP1, N15 UPHY_V10D (power), N16 UPHY_V33A (power), P15 UPHY_V33A (power), P16 UPHY_PADP0, P17 UPHY_PADM0, R17 UPHY_VRES
part B pins: A1 MD10 (io), A2 MD11 (io), A3 MD13 (io), A4 MD15 (io), A6 MD1 (io), A7 MD4 (io), A8 MD7 (io), B1 MD8 (io), B2 MD9 (io), B3 MD12 (io), B4 MD14 (io), B6 MD2 (io), B7 MD5 (io), B8 MDQS0 (io), C4 MD0 (io), C6 MD3 (io), C7 MD6 (io), C9 MDQM0 (io), D1 MDQM1 (io), D2 MDQS1 (io), E1 MCK_N (out), F1 MCK_P (out), G3 MCKE (io), G15 ND_WP, G16 ND_WE_N, G17 ND_RE_N, H1 MA11 (io), H2 MA9 (io), H3 MA12 (io), H15 ND_CS_N, H16 ND_RB_N, H17 ND_D0, J1 MA8 (io), J3 MA6 (io), J4 MA7 (io), J15 ND_D3, J16 ND_D2, J17 ND_D1, L1 MA3 (io), L2 MA4 (io), L3 MA5 (io), M1 MA0 (io), M2 MA1 (io), M3 MA2 (io), N1 MBA0 (io), N2 MBA1 (io), N3 MA10 (io), R1 MRAS_N (io), R2 MCS_N (io), R3 MBA2 (io), T1 MCAS_N (io), T3 MA13 (io), U2 MWE_N (io), U3 MODT (io)
part C pins: D14 EPHY_LED0_N (out), E13 EPHY_LED2_N (out), E14 EPHY_LED1_N (out), F12 EPHY_LED4_N (out), F13 EPHY_LED3_N (out), K16 MDIO (io), K17 MDC (out), N5 EPHY_RES_VBG (io), N6 EPHY_V33A (power), N7 EPHY_V33A (power), N8 EPHY_V10A (in), N9 EPHY_V10A (in), N10 EPHY_V10D (in), P5 MDI_RP_P0 (in), P6 MDI_RP_P1 (in), P7 MDI_RP_P2 (in), P8 MDI_RP_P3 (in), P9 MDI_RP_P4 (in), P11 GE1_RXD1 (in), P12 GE1_RXD2 (in), P13 GE1_RXD3 (in), R5 MDI_RN_P0 (in), R6 MDI_RN_P1 (in), R7 MDI_RN_P2 (in), R8 MDI_RN_P3 (in), R9 MDI_RN_P4 (in), R11 GE1_RXD0 (in), R12 GE1_TXD0 (out), R13 GE1_TXD3 (out), T5 MDI_TP_P0 (out), T6 MDI_TP_P1 (out), T7 MDI_TP_P2 (out), T8 MDI_TP_P3 (out), T9 MDI_TP_P4 (out), T11 GE1_RXDV (in), T12 GE1_TXEN (out), T13 GE1_TXD2 (out), U5 MDI_TN_P0 (out), U6 MDI_TN_P1 (out), U7 MDI_TN_P2 (out), U8 MDI_TN_P3 (in), U9 MDI_TN_P4 (out), U11 GE1_RXCLK (in), U12 GE1_TXCLK (out), U13 GE1_TXD1 (out)
part D pins: A5 GND (power), B5 GND (power), B13 GND (power), B16 GND (power), C1 GND (power), C2 GND (power), C3 GND (power), C5 GND (power), C13 GND (power), C14 GND (power), C15 GND (power), D13 GND (power), E2 GND (power), E5 GND (power), E6 GND (power), E7 GND (power), E8 GND (power), E11 GND (power), F5 GND (power), F6 GND (power), F7 GND (power), F8 GND (power), G5 GND (power), G6 GND (power), G7 GND (power), G8 GND (power), G9 GND (power), G10 GND (power), H5 GND (power), H6 GND (power), H7 GND (power), H8 GND (power), H9 GND (power), H10 GND (power), J5 GND (power), J6 GND (power), J7 GND (power), J8 GND (power), J9 GND (power), J10 GND (power), K5 GND (power), K6 GND (power), K7 GND (power), K8 GND (power), K9 GND (power), K10 GND (power), L5 GND (power), L6 GND (power), L7 GND (power), L8 GND (power), L9 GND (power), L10 GND (power), L16 GND (power), L17 GND (power), N12 GND (power), N13 GND (power), N17 GND (power), P1 GND (power), P2 GND (power), P14 GND (power), R10 GND (power), R15 GND (power), R16 GND (power), T10 GND (power), T17 GND (power), U10 GND (power)
part E pins: A9 DDR_IO_V33D (power), B9 DDR_IO_V33D (power), C8 DDR_IOL_V33D (power), D3 DDR_IOR_V09D (power), E3 SOC_CO_V10D_1 (power), E13 SOC_CO_V10D_3 (power), F2 DDR_IOC_V10D (power), F3 DDR_IOL_V33D (power), G1 DDR_IO_V33D (power), G2 DDR_IO_V33D (power), G12 SOC_IO_V33D (power), G13 SOC_IO_V33D (power), N11 SOC_IO_V33D (power), N14 SOC_CO_V10D_3 (power), P3 DDR_IO_V33D (power), P10 SOC_CO_V10D_2 (power), P16 LX, P17 LX (power), R15 OUT_BJTB, R17 DCDC_V33D (power), T2 SOC_CO_V10D_1 (power), T15 OUT_BJTC, T16 LDO_V25A_OUT (power), U1 DDR_IOC_V10D (power), U15 DCDC_V33A (power), U16 COMP, U17 FB

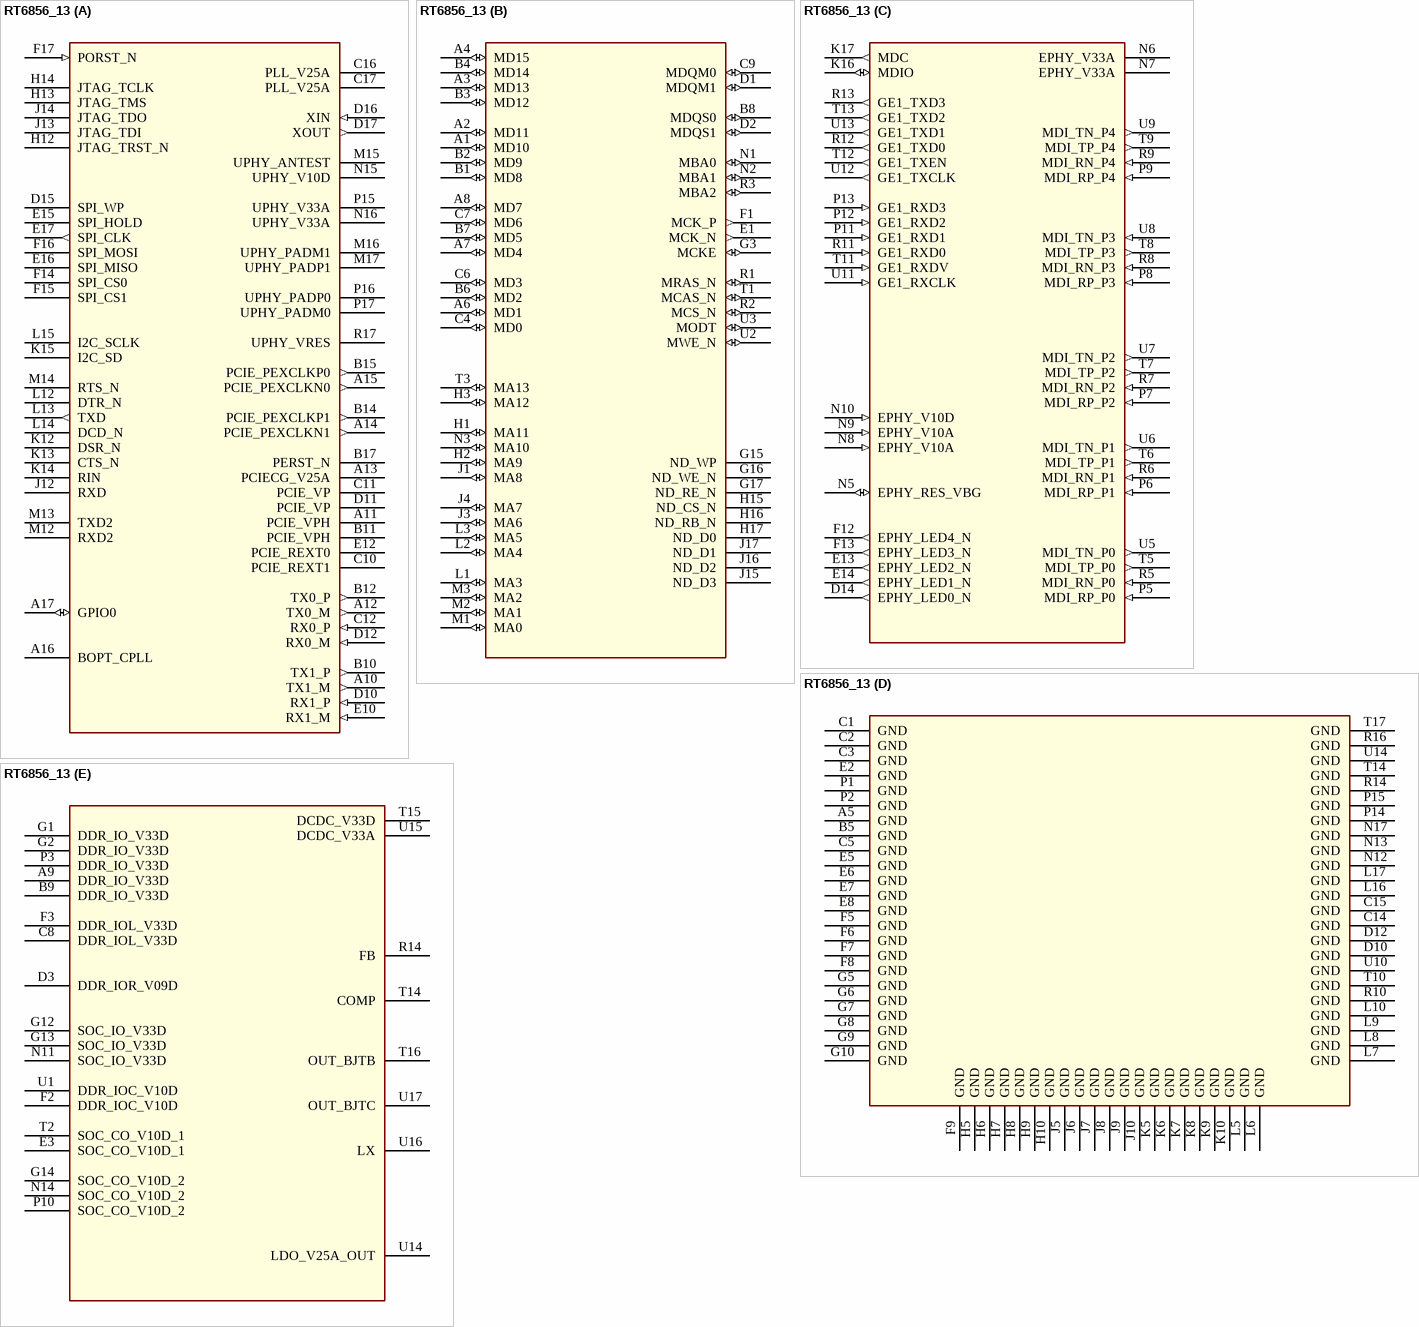
[diagram p134: symbol RT6856_13]

## RT6856_13
designator U?
footprint TFBGA289
part A pins: A10 TX1_M (out), A11 PCIE_VPH (power), A12 TX0_M (out), A13 PCIECG_V25A, A14 PCIE_PEXCLKN1 (out), A15 PCIE_PEXCLKN0 (out), A16 BOPT_CPLL, A17 GPIO0 (io), B10 TX1_P (out), B11 PCIE_VPH (power), B12 TX0_P (out), B14 PCIE_PEXCLKP1 (out), B15 PCIE_PEXCLKP0 (out), B17 PERST_N, C10 PCIE_REXT1, C11 PCIE_VP (power), C12 RX0_P (in), C16 PLL_V25A (power), C17 PLL_V25A (power), D10 RX1_P (in), D11 PCIE_VP (power), D12 RX0_M (in), D15 SPI_WP, D16 XIN (in), D17 XOUT (out), E10 RX1_M (in), E12 PCIE_REXT0, E15 SPI_HOLD, E16 SPI_MISO, E17 SPI_CLK (out), F14 SPI_CS0, F15 SPI_CS1, F16 SPI_MOSI, F17 PORST_N (in), H12 JTAG_TRST_N, H13 JTAG_TMS, H14 JTAG_TCLK, J12 RXD, J13 JTAG_TDI, J14 JTAG_TDO, K12 DSR_N, K13 CTS_N, K14 RIN, K15 I2C_SD, L12 DTR_N, L13 TXD (out), L14 DCD_N, L15 I2C_SCLK, M12 RXD2, M13 TXD2, M14 RTS_N, M15 UPHY_ANTEST, M16 UPHY_PADM1, M17 UPHY_PADP1, N15 UPHY_V10D (power), N16 UPHY_V33A (power), P15 UPHY_V33A (power), P16 UPHY_PADP0, P17 UPHY_PADM0, R17 UPHY_VRES
part B pins: A1 MD10 (io), A2 MD11 (io), A3 MD13 (io), A4 MD15 (io), A6 MD1 (io), A7 MD4 (io), A8 MD7 (io), B1 MD8 (io), B2 MD9 (io), B3 MD12 (io), B4 MD14 (io), B6 MD2 (io), B7 MD5 (io), B8 MDQS0 (io), C4 MD0 (io), C6 MD3 (io), C7 MD6 (io), C9 MDQM0 (io), D1 MDQM1 (io), D2 MDQS1 (io), E1 MCK_N (out), F1 MCK_P (out), G3 MCKE (io), G15 ND_WP, G16 ND_WE_N, G17 ND_RE_N, H1 MA11 (io), H2 MA9 (io), H3 MA12 (io), H15 ND_CS_N, H16 ND_RB_N, H17 ND_D0, J1 MA8 (io), J3 MA6 (io), J4 MA7 (io), J15 ND_D3, J16 ND_D2, J17 ND_D1, L1 MA3 (io), L2 MA4 (io), L3 MA5 (io), M1 MA0 (io), M2 MA1 (io), M3 MA2 (io), N1 MBA0 (io), N2 MBA1 (io), N3 MA10 (io), R1 MRAS_N (io), R2 MCS_N (io), R3 MBA2 (io), T1 MCAS_N (io), T3 MA13 (io), U2 MWE_N (io), U3 MODT (io)
part C pins: D14 EPHY_LED0_N (out), E13 EPHY_LED2_N (out), E14 EPHY_LED1_N (out), F12 EPHY_LED4_N (out), F13 EPHY_LED3_N (out), K16 MDIO (io), K17 MDC (out), N5 EPHY_RES_VBG (io), N6 EPHY_V33A (power), N7 EPHY_V33A (power), N8 EPHY_V10A (in), N9 EPHY_V10A (in), N10 EPHY_V10D (in), P5 MDI_RP_P0 (in), P6 MDI_RP_P1 (in), P7 MDI_RP_P2 (in), P8 MDI_RP_P3 (in), P9 MDI_RP_P4 (in), P11 GE1_RXD1 (in), P12 GE1_RXD2 (in), P13 GE1_RXD3 (in), R5 MDI_RN_P0 (in), R6 MDI_RN_P1 (in), R7 MDI_RN_P2 (in), R8 MDI_RN_P3 (in), R9 MDI_RN_P4 (in), R11 GE1_RXD0 (in), R12 GE1_TXD0 (out), R13 GE1_TXD3 (out), T5 MDI_TP_P0 (out), T6 MDI_TP_P1 (out), T7 MDI_TP_P2 (out), T8 MDI_TP_P3 (out), T9 MDI_TP_P4 (out), T11 GE1_RXDV (in), T12 GE1_TXEN (out), T13 GE1_TXD2 (out), U5 MDI_TN_P0 (out), U6 MDI_TN_P1 (out), U7 MDI_TN_P2 (out), U8 MDI_TN_P3 (in), U9 MDI_TN_P4 (out), U11 GE1_RXCLK (in), U12 GE1_TXCLK (out), U13 GE1_TXD1 (out)
part D pins: A5 GND (power), B5 GND (power), C1 GND (power), C2 GND (power), C3 GND (power), C5 GND (power), C14 GND (power), C15 GND (power), D10 GND (power), D12 GND (power), E2 GND (power), E5 GND (power), E6 GND (power), E7 GND (power), E8 GND (power), F5 GND (power), F6 GND (power), F7 GND (power), F8 GND (power), F9 GND (power), G5 GND (power), G6 GND (power), G7 GND (power), G8 GND (power), G9 GND (power), G10 GND (power), H5 GND (power), H6 GND (power), H7 GND (power), H8 GND (power), H9 GND (power), H10 GND (power), J5 GND (power), J6 GND (power), J7 GND (power), J8 GND (power), J9 GND (power), J10 GND (power), K5 GND (power), K6 GND (power), K7 GND (power), K8 GND (power), K9 GND (power), K10 GND (power), L5 GND (power), L6 GND (power), L7 GND (power), L8 GND (power), L9 GND (power), L10 GND (power), L16 GND (power), L17 GND (power), N12 GND (power), N13 GND (power), N17 GND (power), P1 GND (power), P2 GND (power), P14 GND (power), P15 GND (power), R10 GND (power), R14 GND (power), R16 GND (power), T10 GND (power), T14 GND (power), T17 GND (power), U10 GND (power), U14 GND (power)
part E pins: A9 DDR_IO_V33D (power), B9 DDR_IO_V33D (power), C8 DDR_IOL_V33D (power), D3 DDR_IOR_V09D (power), E3 SOC_CO_V10D_1 (power), F2 DDR_IOC_V10D (power), F3 DDR_IOL_V33D (power), G1 DDR_IO_V33D (power), G2 DDR_IO_V33D (power), G12 SOC_IO_V33D (power), G13 SOC_IO_V33D (power), G14 SOC_CO_V10D_2 (power), N11 SOC_IO_V33D (power), N14 SOC_CO_V10D_2 (power), P3 DDR_IO_V33D (power), P10 SOC_CO_V10D_2 (power), R14 FB, T2 SOC_CO_V10D_1 (power), T14 COMP, T15 DCDC_V33D (power), T16 OUT_BJTB, U1 DDR_IOC_V10D (power), U14 LDO_V25A_OUT, U15 DCDC_V33A (power), U16 LX, U17 OUT_BJTC

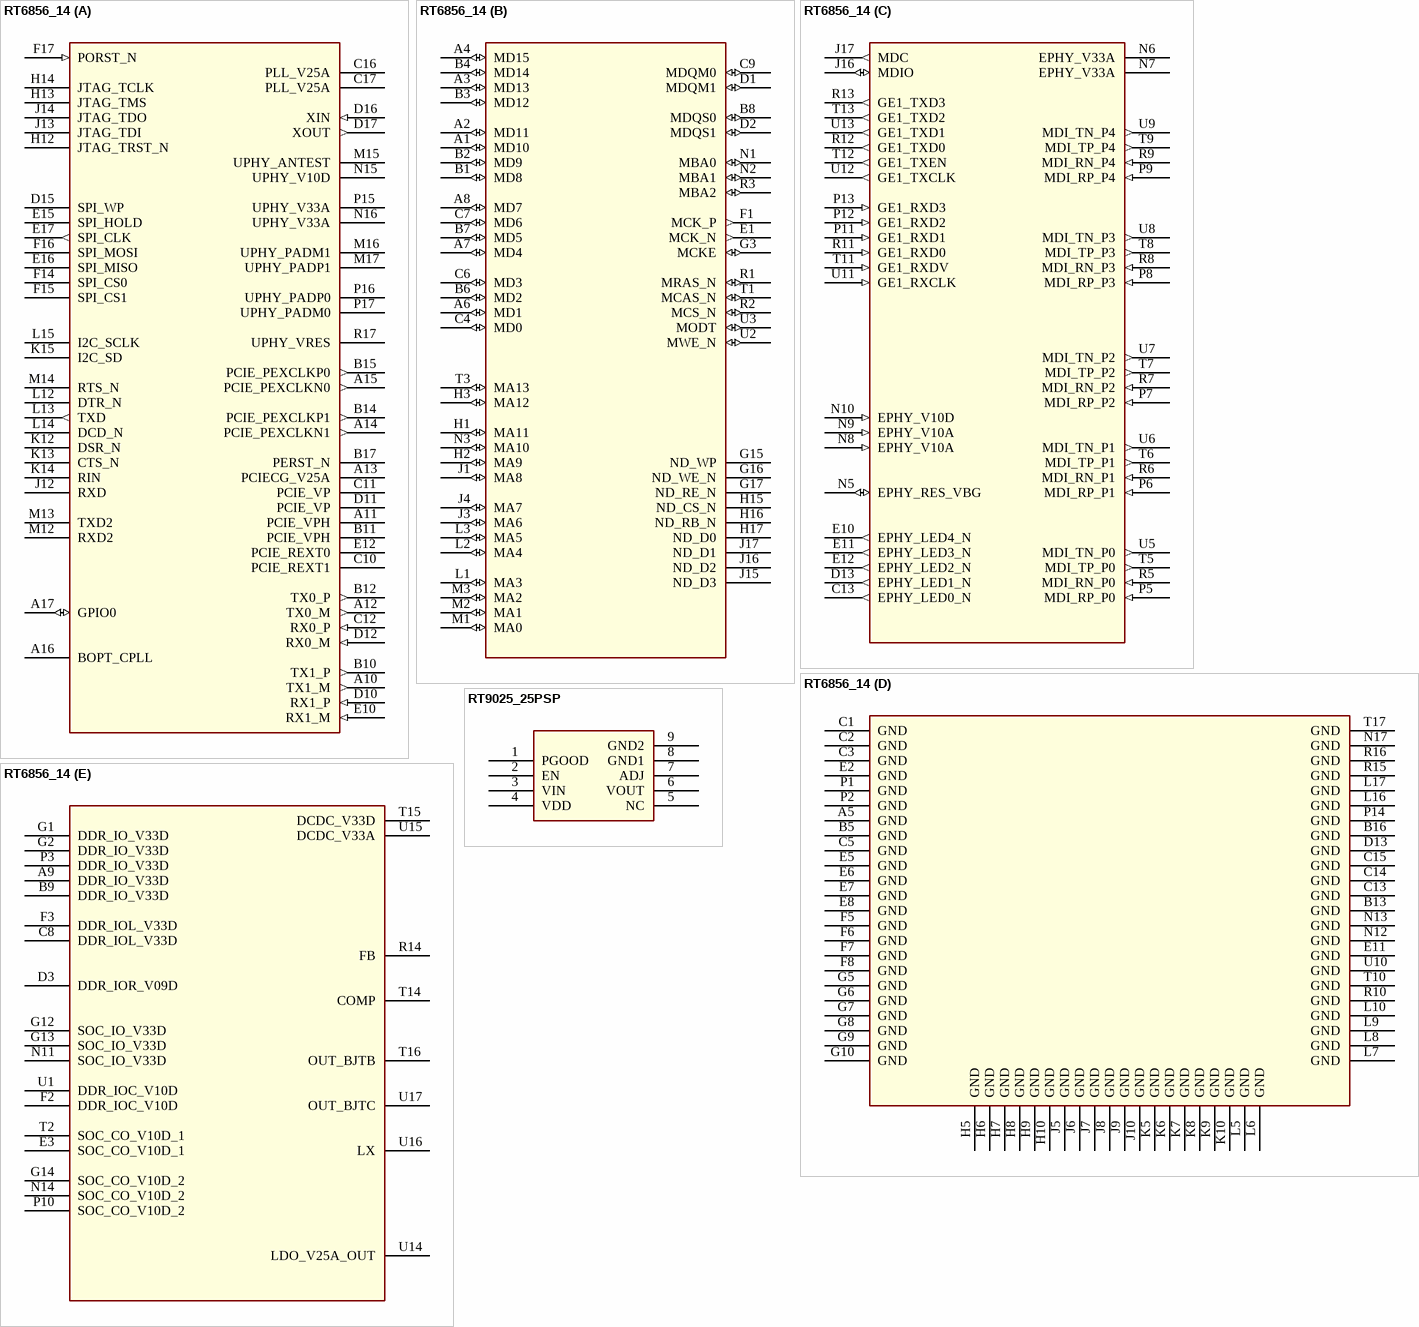
[diagram p135: symbols RT6856_14 to RT9025_25PSP]

## RT6856_14
designator U?
footprint TFBGA289
part A pins: A10 TX1_M (out), A11 PCIE_VPH (power), A12 TX0_M (out), A13 PCIECG_V25A, A14 PCIE_PEXCLKN1 (out), A15 PCIE_PEXCLKN0 (out), A16 BOPT_CPLL, A17 GPIO0 (io), B10 TX1_P (out), B11 PCIE_VPH (power), B12 TX0_P (out), B14 PCIE_PEXCLKP1 (out), B15 PCIE_PEXCLKP0 (out), B17 PERST_N, C10 PCIE_REXT1, C11 PCIE_VP (power), C12 RX0_P (in), C16 PLL_V25A (power), C17 PLL_V25A (power), D10 RX1_P (in), D11 PCIE_VP (power), D12 RX0_M (in), D15 SPI_WP, D16 XIN (in), D17 XOUT (out), E10 RX1_M (in), E12 PCIE_REXT0, E15 SPI_HOLD, E16 SPI_MISO, E17 SPI_CLK (out), F14 SPI_CS0, F15 SPI_CS1, F16 SPI_MOSI, F17 PORST_N (in), H12 JTAG_TRST_N, H13 JTAG_TMS, H14 JTAG_TCLK, J12 RXD, J13 JTAG_TDI, J14 JTAG_TDO, K12 DSR_N, K13 CTS_N, K14 RIN, K15 I2C_SD, L12 DTR_N, L13 TXD (out), L14 DCD_N, L15 I2C_SCLK, M12 RXD2, M13 TXD2, M14 RTS_N, M15 UPHY_ANTEST, M16 UPHY_PADM1, M17 UPHY_PADP1, N15 UPHY_V10D (power), N16 UPHY_V33A (power), P15 UPHY_V33A (power), P16 UPHY_PADP0, P17 UPHY_PADM0, R17 UPHY_VRES
part B pins: A1 MD10 (io), A2 MD11 (io), A3 MD13 (io), A4 MD15 (io), A6 MD1 (io), A7 MD4 (io), A8 MD7 (io), B1 MD8 (io), B2 MD9 (io), B3 MD12 (io), B4 MD14 (io), B6 MD2 (io), B7 MD5 (io), B8 MDQS0 (io), C4 MD0 (io), C6 MD3 (io), C7 MD6 (io), C9 MDQM0 (io), D1 MDQM1 (io), D2 MDQS1 (io), E1 MCK_N (out), F1 MCK_P (out), G3 MCKE (io), G15 ND_WP, G16 ND_WE_N, G17 ND_RE_N, H1 MA11 (io), H2 MA9 (io), H3 MA12 (io), H15 ND_CS_N, H16 ND_RB_N, H17 ND_D0, J1 MA8 (io), J3 MA6 (io), J4 MA7 (io), J15 ND_D3, J16 ND_D2, J17 ND_D1, L1 MA3 (io), L2 MA4 (io), L3 MA5 (io), M1 MA0 (io), M2 MA1 (io), M3 MA2 (io), N1 MBA0 (io), N2 MBA1 (io), N3 MA10 (io), R1 MRAS_N (io), R2 MCS_N (io), R3 MBA2 (io), T1 MCAS_N (io), T3 MA13 (io), U2 MWE_N (io), U3 MODT (io)
part C pins: C13 EPHY_LED0_N (out), D13 EPHY_LED1_N (out), E10 EPHY_LED4_N (out), E11 EPHY_LED3_N (out), E12 EPHY_LED2_N (out), J16 MDIO (io), J17 MDC (out), N5 EPHY_RES_VBG (io), N6 EPHY_V33A (power), N7 EPHY_V33A (power), N8 EPHY_V10A (in), N9 EPHY_V10A (in), N10 EPHY_V10D (in), P5 MDI_RP_P0 (in), P6 MDI_RP_P1 (in), P7 MDI_RP_P2 (in), P8 MDI_RP_P3 (in), P9 MDI_RP_P4 (in), P11 GE1_RXD1 (in), P12 GE1_RXD2 (in), P13 GE1_RXD3 (in), R5 MDI_RN_P0 (in), R6 MDI_RN_P1 (in), R7 MDI_RN_P2 (in), R8 MDI_RN_P3 (in), R9 MDI_RN_P4 (in), R11 GE1_RXD0 (in), R12 GE1_TXD0 (out), R13 GE1_TXD3 (out), T5 MDI_TP_P0 (out), T6 MDI_TP_P1 (out), T7 MDI_TP_P2 (out), T8 MDI_TP_P3 (out), T9 MDI_TP_P4 (out), T11 GE1_RXDV (in), T12 GE1_TXEN (out), T13 GE1_TXD2 (out), U5 MDI_TN_P0 (out), U6 MDI_TN_P1 (out), U7 MDI_TN_P2 (out), U8 MDI_TN_P3 (out), U9 MDI_TN_P4 (out), U11 GE1_RXCLK (in), U12 GE1_TXCLK (out), U13 GE1_TXD1 (out)
part D pins: A5 GND (power), B5 GND (power), B13 GND (power), B16 GND (power), C1 GND (power), C2 GND (power), C3 GND (power), C5 GND (power), C13 GND (power), C14 GND (power), C15 GND (power), D13 GND (power), E2 GND (power), E5 GND (power), E6 GND (power), E7 GND (power), E8 GND (power), E11 GND (power), F5 GND (power), F6 GND (power), F7 GND (power), F8 GND (power), G5 GND (power), G6 GND (power), G7 GND (power), G8 GND (power), G9 GND (power), G10 GND (power), H5 GND (power), H6 GND (power), H7 GND (power), H8 GND (power), H9 GND (power), H10 GND (power), J5 GND (power), J6 GND (power), J7 GND (power), J8 GND (power), J9 GND (power), J10 GND (power), K5 GND (power), K6 GND (power), K7 GND (power), K8 GND (power), K9 GND (power), K10 GND (power), L5 GND (power), L6 GND (power), L7 GND (power), L8 GND (power), L9 GND (power), L10 GND (power), L16 GND (power), L17 GND (power), N12 GND (power), N13 GND (power), N17 GND (power), P1 GND (power), P2 GND (power), P14 GND (power), R10 GND (power), R15 GND (power), R16 GND (power), T10 GND (power), T17 GND (power), U10 GND (power)
part E pins: A9 DDR_IO_V33D (power), B9 DDR_IO_V33D (power), C8 DDR_IOL_V33D (power), D3 DDR_IOR_V09D (power), E3 SOC_CO_V10D_1 (power), F2 DDR_IOC_V10D (power), F3 DDR_IOL_V33D (power), G1 DDR_IO_V33D (power), G2 DDR_IO_V33D (power), G12 SOC_IO_V33D (power), G13 SOC_IO_V33D (power), G14 SOC_CO_V10D_2 (power), N11 SOC_IO_V33D (power), N14 SOC_CO_V10D_2 (power), P3 DDR_IO_V33D (power), P10 SOC_CO_V10D_2 (power), R14 FB, T2 SOC_CO_V10D_1 (power), T14 COMP, T15 DCDC_V33D (power), T16 OUT_BJTB, U1 DDR_IOC_V10D (power), U14 LDO_V25A_OUT, U15 DCDC_V33A (power), U16 LX, U17 OUT_BJTC

## RT9025_25PSP
designator U?
pins: 1 PGOOD, 2 EN, 3 VIN, 4 VDD, 5 NC, 6 VOUT, 7 ADJ, 8 GND1, 9 GND2

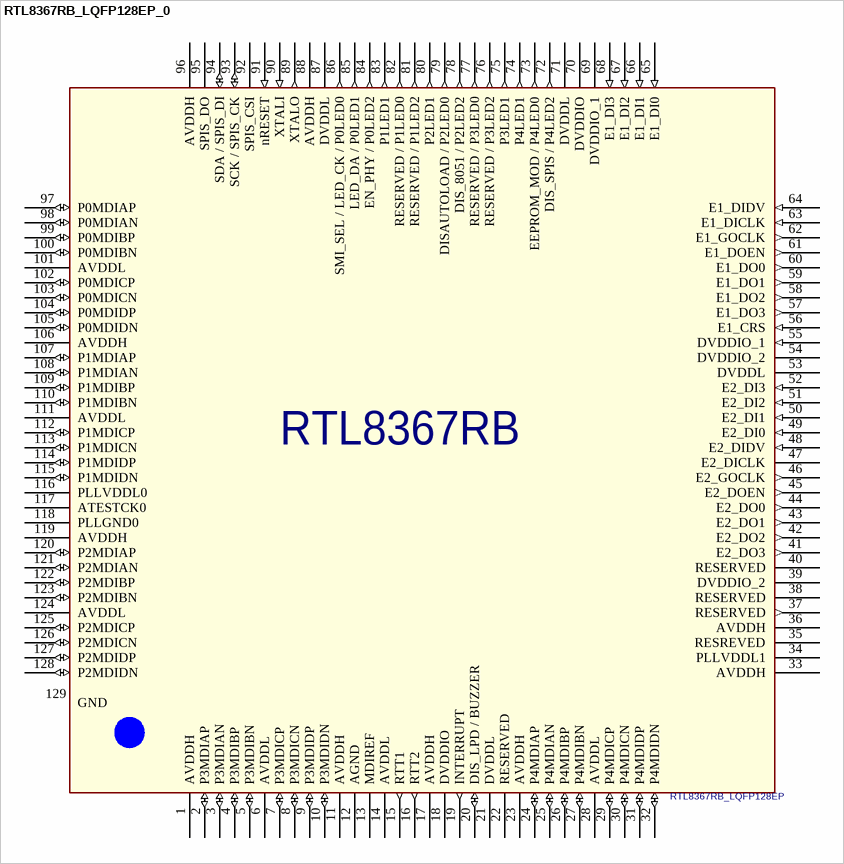
[diagram p136: symbol RTL8367RB_LQFP128EP_0]